# Altium schematic symbol library SparkFun-Connectors.SCHLIB: 365 symbols (part 7 of 8)
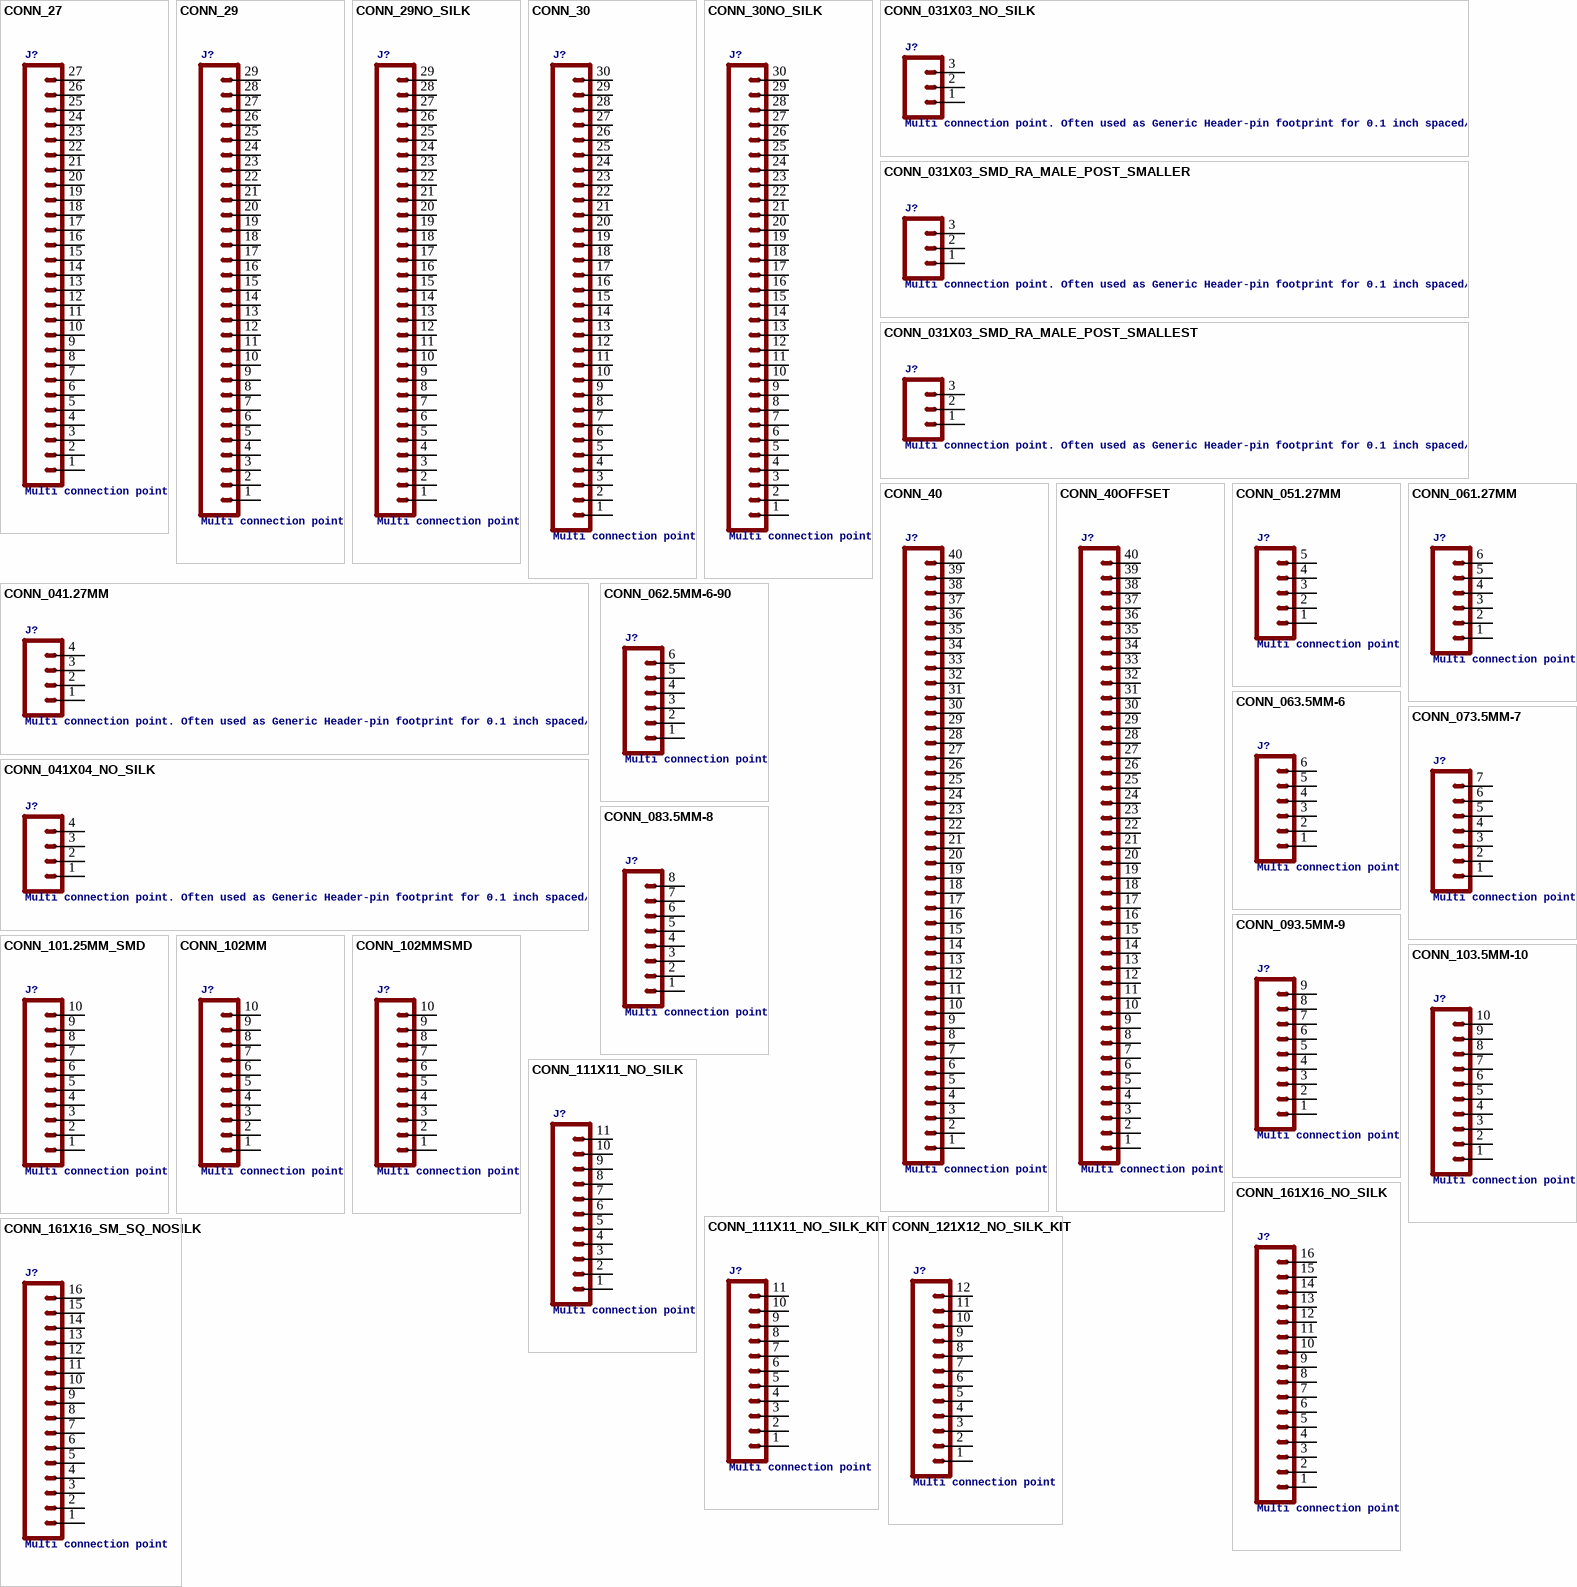
[diagram p22: symbols CONN_27 to CONN_161X16_SM_SQ_NOSILK]

## CONN_103.5MM-10
designator J?, comment Multi connection point. Often used as Generic Header-pin footprint for 0.1 inch spaced/style header connectionsOn any of the 0.1 inch spaced packages, you can populate with these: For SCREWTERMINALS and SPRING TERMINALS visit here:This device is also useful as a general connection point to wire up your design to another part of your project. Our various solder wires solder well into these plated through hole pads.Special notes:  Molex polarized connector foot print use with SKU : PRT-08231 with associated crimp pins and housings. 1MM SMD Version SKU: PRT-10208 NOTES ON THE VARIANTS LOCK and LOCK_LONGPADS... This footprint was designed to help hold the alignment of a through-hole component (i.e.  6-pin header) while soldering it into place. You may notice that each hole has been shifted either up or down by 0.005 of an inch from it's more standard position (which is a perfectly straight line).  This slight alteration caused the pins (the squares in the middle) to touch the edges of the holes.  Because they are alternating, it causes a "brace" to hold the component in place.  0.005 has proven to be the perfect amount of "off-center" position when using our standard breakaway headers. Although looks a little odd when you look at the bare footprint, once you have a header in there, the alteration is very hard to notice.  Also,if you push a header all the way into place, it is covered up entirely on the bottom side.
GateName_1: J1; SymbolName_1: CONN_10; DeviceName: 3.5MM-10; LibraryName: SparkFun-Connectors; DeviceSetName: CONN_10; Package: SCREWTERMINAL-3.5MM-10
footprint SCREWTERMINAL-3.5MM-10
pins: 1, 2, 3, 4, 5, 6, 7, 8, 9, 10

## CONN_111X11_NO_SILK
designator J?, comment Multi connection point. Often used as Generic Header-pin footprint for 0.1 inch spaced/style header connectionsOn any of the 0.1 inch spaced packages, you can populate with these: For SCREWTERMINALS and SPRING TERMINALS visit here:This device is also useful as a general connection point to wire up your design to another part of your project. Our various solder wires solder well into these plated through hole pads.
GateName_1: G$1; SymbolName_1: CONN_11; DeviceName: 1X11_NO_SILK; LibraryName: SparkFun-Connectors; DeviceSetName: CONN_11; Package: 1X11_NO_SILK
footprint 1X11_NO_SILK
pins: 1, 2, 3, 4, 5, 6, 7, 8, 9, 10, 11

## CONN_111X11_NO_SILK_KIT
designator J?, comment Multi connection point. Often used as Generic Header-pin footprint for 0.1 inch spaced/style header connectionsOn any of the 0.1 inch spaced packages, you can populate with these: For SCREWTERMINALS and SPRING TERMINALS visit here:This device is also useful as a general connection point to wire up your design to another part of your project. Our various solder wires solder well into these plated through hole pads.
GateName_1: G$1; SymbolName_1: CONN_11; DeviceName: 1X11_NO_SILK_KIT; LibraryName: SparkFun-Connectors; DeviceSetName: CONN_11; Package: 1X11_NO_SILK_KIT
footprint 1X11_NO_SILK_KIT
pins: 1, 2, 3, 4, 5, 6, 7, 8, 9, 10, 11

## CONN_121X12_NO_SILK_KIT
designator J?, comment Multi connection point. Often used as Generic Header-pin footprint for 0.1 inch spaced/style header connectionsOn any of the 0.1 inch spaced packages, you can populate with these: For SCREWTERMINALS and SPRING TERMINALS visit here:This device is also useful as a general connection point to wire up your design to another part of your project. Our various solder wires solder well into these plated through hole pads.Special notes:  Molex polarized connector foot print use with SKU : PRT-08231 with associated crimp pins and housings. 1MM SMD Version SKU: PRT-10208 NOTES ON THE VARIANTS LOCK and LOCK_LONGPADS... This footprint was designed to help hold the alignment of a through-hole component (i.e.  6-pin header) while soldering it into place. You may notice that each hole has been shifted either up or down by 0.005 of an inch from it's more standard position (which is a perfectly straight line).  This slight alteration caused the pins (the squares in the middle) to touch the edges of the holes.  Because they are alternating, it causes a "brace" to hold the component in place.  0.005 has proven to be the perfect amount of "off-center" position when using our standard breakaway headers. Although looks a little odd when you look at the bare footprint, once you have a header in there, the alteration is very hard to notice.  Also,if you push a header all the way into place, it is covered up entirely on the bottom side.
GateName_1: G$1; SymbolName_1: CONN_12; DeviceName: 1X12_NO_SILK_KIT; LibraryName: SparkFun-Connectors; DeviceSetName: CONN_12; Package: 1X12_NO_SILK_KIT
footprint 1X12_NO_SILK_KIT
pins: 1, 2, 3, 4, 5, 6, 7, 8, 9, 10, 11, 12

## CONN_161X16_NO_SILK
designator J?, comment Multi connection point. Often used as Generic Header-pin footprint for 0.1 inch spaced/style header connectionsOn any of the 0.1 inch spaced packages, you can populate with these: For SCREWTERMINALS and SPRING TERMINALS visit here:This device is also useful as a general connection point to wire up your design to another part of your project. Our various solder wires solder well into these plated through hole pads.Special notes:  Molex polarized connector foot print use with SKU : PRT-08231 with associated crimp pins and housings. 1MM SMD Version SKU: PRT-10208 NOTES ON THE VARIANTS LOCK and LOCK_LONGPADS... This footprint was designed to help hold the alignment of a through-hole component (i.e.  6-pin header) while soldering it into place. You may notice that each hole has been shifted either up or down by 0.005 of an inch from it's more standard position (which is a perfectly straight line).  This slight alteration caused the pins (the squares in the middle) to touch the edges of the holes.  Because they are alternating, it causes a "brace" to hold the component in place.  0.005 has proven to be the perfect amount of "off-center" position when using our standard breakaway headers. Although looks a little odd when you look at the bare footprint, once you have a header in there, the alteration is very hard to notice.  Also,if you push a header all the way into place, it is covered up entirely on the bottom side.
GateName_1: G$1; SymbolName_1: CONN_16; DeviceName: 1X16_NO_SILK; LibraryName: SparkFun-Connectors; DeviceSetName: CONN_16; Package: 1X16_NO_SILK
footprint 1X16_NO_SILK
pins: 1, 2, 3, 4, 5, 6, 7, 8, 9, 10, 11, 12, 13, 14, 15, 16

## CONN_161X16_SM_SQ_NOSILK
designator J?, comment Multi connection point. Often used as Generic Header-pin footprint for 0.1 inch spaced/style header connectionsOn any of the 0.1 inch spaced packages, you can populate with these: For SCREWTERMINALS and SPRING TERMINALS visit here:This device is also useful as a general connection point to wire up your design to another part of your project. Our various solder wires solder well into these plated through hole pads.Special notes:  Molex polarized connector foot print use with SKU : PRT-08231 with associated crimp pins and housings. 1MM SMD Version SKU: PRT-10208 NOTES ON THE VARIANTS LOCK and LOCK_LONGPADS... This footprint was designed to help hold the alignment of a through-hole component (i.e.  6-pin header) while soldering it into place. You may notice that each hole has been shifted either up or down by 0.005 of an inch from it's more standard position (which is a perfectly straight line).  This slight alteration caused the pins (the squares in the middle) to touch the edges of the holes.  Because they are alternating, it causes a "brace" to hold the component in place.  0.005 has proven to be the perfect amount of "off-center" position when using our standard breakaway headers. Although looks a little odd when you look at the bare footprint, once you have a header in there, the alteration is very hard to notice.  Also,if you push a header all the way into place, it is covered up entirely on the bottom side.
GateName_1: G$1; SymbolName_1: CONN_16; DeviceName: 1X16_SM_SQ_NOSILK; LibraryName: SparkFun-Connectors; DeviceSetName: CONN_16; Package: 1X16_SM_SQ_NOSILK
footprint 1X16_SM_SQ_NOSILK
pins: 1, 2, 3, 4, 5, 6, 7, 8, 9, 10, 11, 12, 13, 14, 15, 16

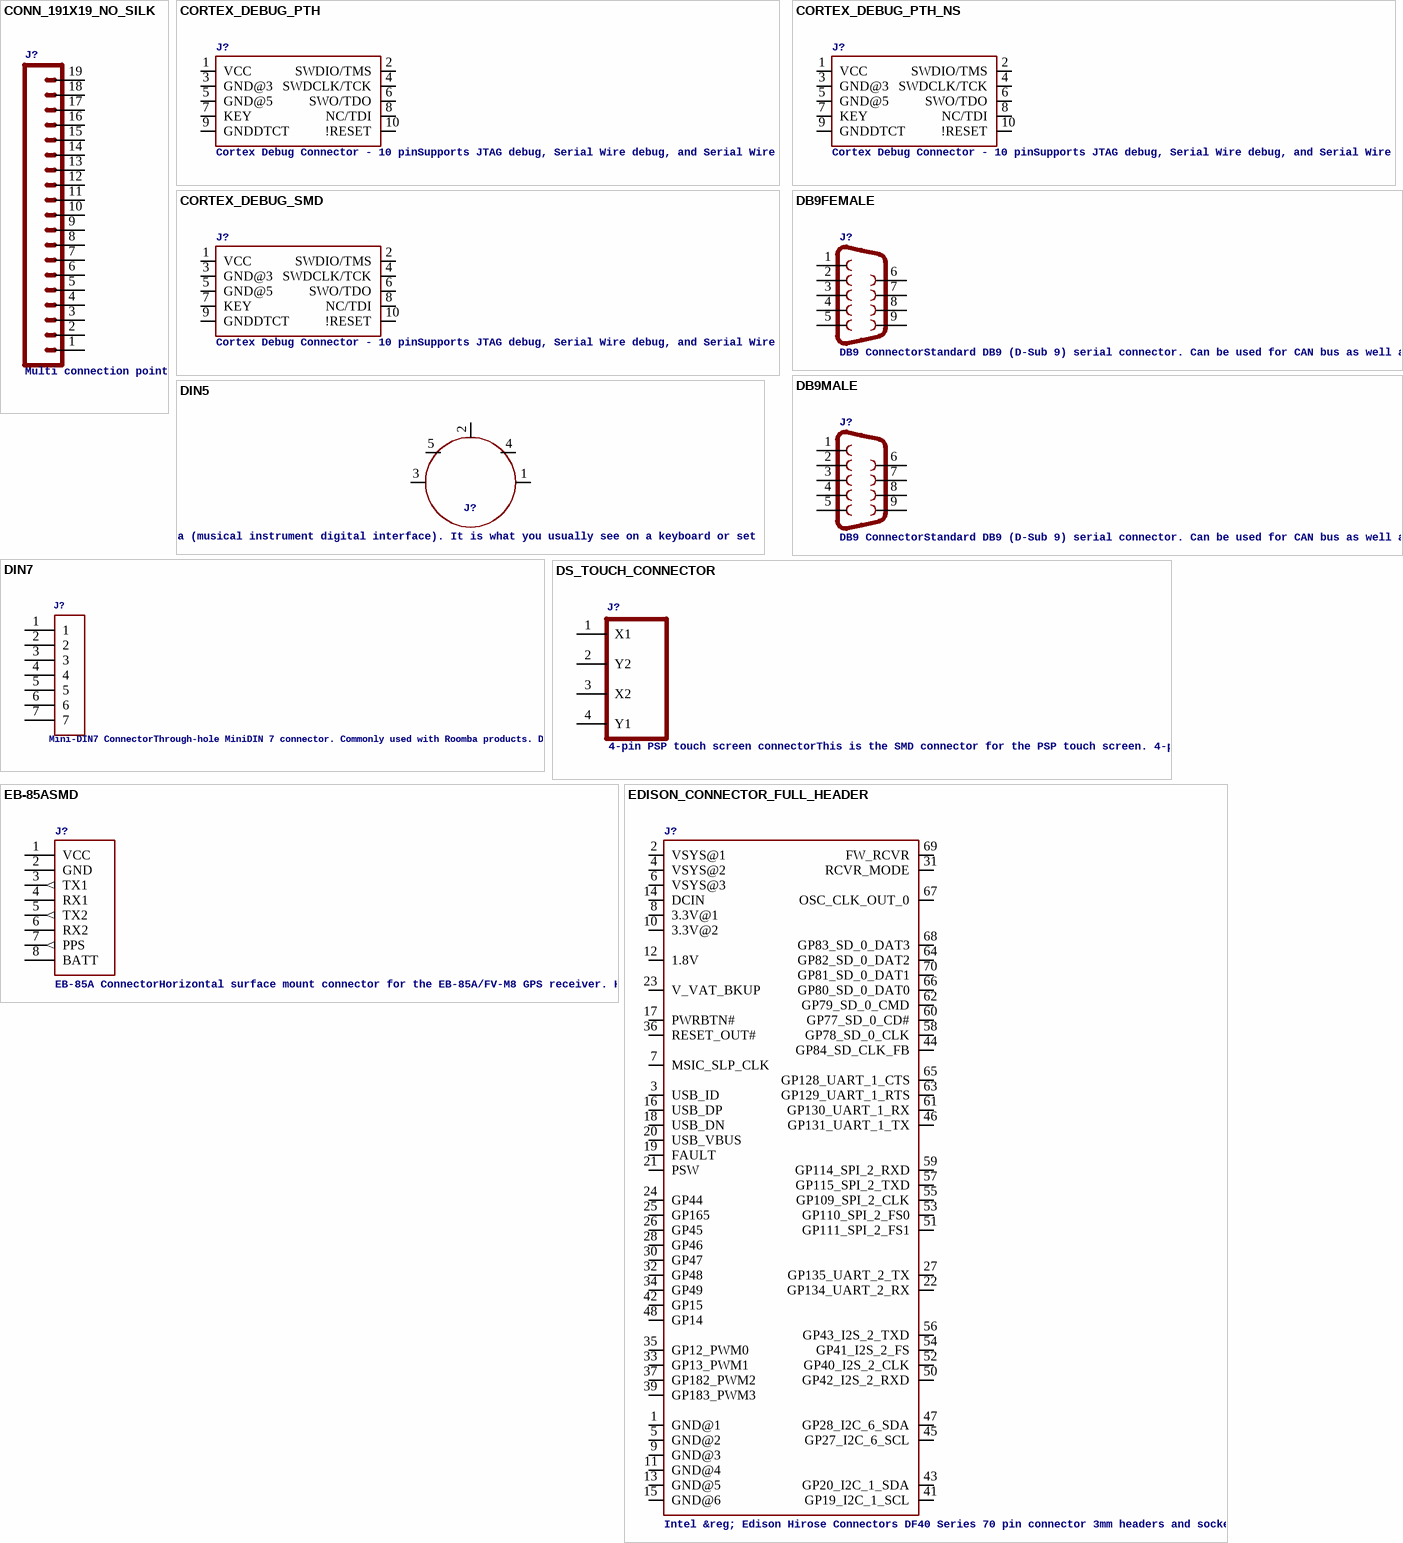
[diagram p12: symbols CONN_191X19_NO_SILK to EDISON_CONNECTOR_FULL_HEADER]

## CONN_191X19_NO_SILK
designator J?, comment Multi connection point. Often used as Generic Header-pin footprint for 0.1 inch spaced/style header connectionsOn any of the 0.1 inch spaced packages, you can populate with these: For SCREWTERMINALS and SPRING TERMINALS visit here:This device is also useful as a general connection point to wire up your design to another part of your project. Our various solder wires solder well into these plated through hole pads.Special notes:  Molex polarized connector foot print use with SKU : PRT-08231 with associated crimp pins and housings. 1MM SMD Version SKU: PRT-10208 NOTES ON THE VARIANTS LOCK and LOCK_LONGPADS... This footprint was designed to help hold the alignment of a through-hole component (i.e.  6-pin header) while soldering it into place. You may notice that each hole has been shifted either up or down by 0.005 of an inch from it's more standard position (which is a perfectly straight line).  This slight alteration caused the pins (the squares in the middle) to touch the edges of the holes.  Because they are alternating, it causes a "brace" to hold the component in place.  0.005 has proven to be the perfect amount of "off-center" position when using our standard breakaway headers. Although looks a little odd when you look at the bare footprint, once you have a header in there, the alteration is very hard to notice.  Also,if you push a header all the way into place, it is covered up entirely on the bottom side.
GateName_1: G$1; SymbolName_1: CONN_19; DeviceName: 1X19_NO_SILK; LibraryName: SparkFun-Connectors; DeviceSetName: CONN_19; Package: 1X19_NO_SILK
footprint 1X19_NO_SILK
pins: 1, 2, 3, 4, 5, 6, 7, 8, 9, 10, 11, 12, 13, 14, 15, 16, 17, 18, 19

## CORTEX_DEBUG_PTH
designator J?, comment Cortex Debug Connector - 10 pinSupports JTAG debug, Serial Wire debug, and Serial Wire Viewer. PTH and SMD connector options available. General Connector Information Products:
GateName_1: J1; SymbolName_1: CORTEX_DEBUG; DeviceName: _PTH; LibraryName: SparkFun-Connectors; DeviceSetName: CORTEX_DEBUG; Package: 2X5-PTH-1.27MM
footprint 2X5-PTH-1.27MM
pins: 1 VCC, 2 SWDIO/TMS, 3 GND@3, 4 SWDCLK/TCK, 5 GND@5, 6 SWO/TDO, 7 KEY, 8 NC/TDI, 9 GNDDTCT, 10 !RESET

## CORTEX_DEBUG_PTH_NS
designator J?, comment Cortex Debug Connector - 10 pinSupports JTAG debug, Serial Wire debug, and Serial Wire Viewer. PTH and SMD connector options available. General Connector Information Products:
GateName_1: J1; SymbolName_1: CORTEX_DEBUG; DeviceName: _PTH_NS; LibraryName: SparkFun-Connectors; DeviceSetName: CORTEX_DEBUG; Package: 2X5-PTH-1.27MM-NO_SILK
footprint 2X5-PTH-1.27MM-NO_SILK
pins: 1 VCC, 2 SWDIO/TMS, 3 GND@3, 4 SWDCLK/TCK, 5 GND@5, 6 SWO/TDO, 7 KEY, 8 NC/TDI, 9 GNDDTCT, 10 !RESET

## CORTEX_DEBUG_SMD
designator J?, comment Cortex Debug Connector - 10 pinSupports JTAG debug, Serial Wire debug, and Serial Wire Viewer. PTH and SMD connector options available. General Connector Information Products:
GateName_1: J1; SymbolName_1: CORTEX_DEBUG; DeviceName: _SMD; LibraryName: SparkFun-Connectors; DeviceSetName: CORTEX_DEBUG; Package: SAMTECH_FTSH-105-01
footprint SAMTECH_FTSH-105-01
pins: 1 VCC, 2 SWDIO/TMS, 3 GND@3, 4 SWDCLK/TCK, 5 GND@5, 6 SWO/TDO, 7 KEY, 8 NC/TDI, 9 GNDDTCT, 10 !RESET

## DB9FEMALE
designator J?, comment DB9 ConnectorStandard DB9 (D-Sub 9) serial connector. Can be used for CAN bus as well as RS485 and RS232. Footprint production proven. Here is the female version connector we sell at SparkFun:This connector has been used on the following SparkFun products:
GateName_1: G$1; SymbolName_1: F09G; PROD_ID: CONN-08194; DeviceName: FEMALE; LibraryName: SparkFun-Connectors; DeviceSetName: DB9; Package: DB9
footprint DB9
pins: 1, 2, 3, 4, 5, 6, 7, 8, 9

## DB9MALE
designator J?, comment DB9 ConnectorStandard DB9 (D-Sub 9) serial connector. Can be used for CAN bus as well as RS485 and RS232. Footprint production proven. Here is the female version connector we sell at SparkFun:This connector has been used on the following SparkFun products:
GateName_1: G$1; SymbolName_1: F09G; DeviceName: MALE; PROD_ID: CONN-09904; LibraryName: SparkFun-Connectors; DeviceSetName: DB9; Package: DB9_MALE
footprint DB9_MALE
pins: 1, 2, 3, 4, 5, 6, 7, 8, 9

## DIN5
designator J?, comment DIN5 Connector - Female Right Angle (frequently used as a MIDI Jack connector)This type of connector and cable is frequently used for transmitting midi data (musical instrument digital interface). It is what you usually see on a keyboard or set of electronic drums. Learn more here. For more information on the pinout and electrical specifications of MIDI communications, please see the following resource: https://www.midi.org/specifications/item/midi-din-electrical-specificationHere is the connector we sell at SparkFun:It is used on this SparkFun product:
GateName_1: G$1; SymbolName_1: 5-PIN-DIN; PROD_ID: CONN-09481; LibraryName: SparkFun-Connectors; DeviceSetName: DIN5; Package: DIN5-RA-PTH
footprint DIN5-RA-PTH
pins: 1, 2, 3, 4, 5

## DIN7
designator J?, comment Mini-DIN7 ConnectorThrough-hole MiniDIN 7 connector. Commonly used with Roomba products. Don't confuse this with DIN-6, which is commonly used on oldschool keyboards and mice. Here is the female version connector we sell at SparkFun:
GateName_1: G$1; SymbolName_1: DIN7; PROD_ID: CONN-08318; SF_ID: PRT-00696; LibraryName: SparkFun-Connectors; DeviceSetName: DIN7; Package: DIN7
footprint DIN7
pins: 1, 2, 3, 4, 5, 6, 7

## DS_TOUCH_CONNECTOR
designator J?, comment 4-pin PSP touch screen connectorThis is the SMD connector for the PSP touch screen. 4-pin right angle good, friction fit connector with 1 mm pitch. This connector is compatible with the PSP Touch Screen NOT the Sharp Color 24-Bit LCD. Here is the connector we sell at SparkFun:It was also used on this SparkFun product:
GateName_1: G$1; SymbolName_1: DS_TOUCH_CONNECTOR; SF_ID: LCD-09104; LibraryName: SparkFun-Connectors; DeviceSetName: DS_TOUCH_CONNECTOR; Package: DS_TOUCH_CONNECTOR; PROD_ID: CONN-0913
footprint DS_TOUCH_CONNECTOR
pins: 1 X1, 2 Y2, 3 X2, 4 Y1

## EB-85ASMD
designator J?, comment EB-85A ConnectorHorizontal surface mount connector for the EB-85A/FV-M8 GPS receiver. Here is the connector we sell at SparkFun:It was also used on this SparkFun product:
GateName_1: G$1; DeviceName: SMD; PROD_ID: CONN-08435; SF_ID: GPS-08297; SymbolName_1: EB-85A; LibraryName: SparkFun-Connectors; DeviceSetName: EB-85A; Package: EB-85A
footprint EB-85A
pins: 1 VCC (power), 2 GND (power), 3 TX1 (out), 4 RX1, 5 TX2 (out), 6 RX2, 7 PPS (out), 8 BATT (power)

## EDISON_CONNECTOR_FULL_HEADER
designator J?, comment Intel &reg; Edison Hirose Connectors DF40 Series 70 pin connector 3mm headers and sockets used on the SparkFun Edison Blocks. Edison Daughter package includes layout for the Edison module itself, including mounting holes and antenna area marked.SparkFun Products:
GateName_1: G$1; SymbolName_1: EDISON_CONNECTOR; DeviceName: _HEADER; DeviceSetName: EDISON_CONNECTOR_FULL; PROD_ID: CONN-12248; LibraryName: SparkFun-Connectors; Package: DF40C-70DP-0.4(51)
footprint DF40C-70DP-0.4(51)
pins: 1 GND@1, 2 VSYS@1, 3 USB_ID, 4 VSYS@2, 5 GND@2, 6 VSYS@3, 7 MSIC_SLP_CLK, 8 3.3V@1, 9 GND@3, 10 3.3V@2, 11 GND@4, 12 1.8V, 13 GND@5, 14 DCIN, 15 GND@6, 16 USB_DP, 17 PWRBTN#, 18 USB_DN, 19 FAULT, 20 USB_VBUS, 21 PSW, 22 GP134_UART_2_RX, 23 V_VAT_BKUP, 24 GP44, 25 GP165, 26 GP45, 27 GP135_UART_2_TX, 28 GP46, 30 GP47, 31 RCVR_MODE, 32 GP48, 33 GP13_PWM1, 34 GP49, 35 GP12_PWM0, 36 RESET_OUT#, 37 GP182_PWM2, 39 GP183_PWM3, 41 GP19_I2C_1_SCL, 42 GP15, 43 GP20_I2C_1_SDA, 44 GP84_SD_CLK_FB, 45 GP27_I2C_6_SCL, 46 GP131_UART_1_TX, 47 GP28_I2C_6_SDA, 48 GP14, 50 GP42_I2S_2_RXD, 51 GP111_SPI_2_FS1, 52 GP40_I2S_2_CLK, 53 GP110_SPI_2_FS0, 54 GP41_I2S_2_FS, 55 GP109_SPI_2_CLK, 56 GP43_I2S_2_TXD, 57 GP115_SPI_2_TXD, 58 GP78_SD_0_CLK, 59 GP114_SPI_2_RXD, 60 GP77_SD_0_CD#, 61 GP130_UART_1_RX, 62 GP79_SD_0_CMD, 63 GP129_UART_1_RTS, 64 GP82_SD_0_DAT2, 65 GP128_UART_1_CTS, 66 GP80_SD_0_DAT0, 67 OSC_CLK_OUT_0, 68 GP83_SD_0_DAT3, 69 FW_RCVR, 70 GP81_SD_0_DAT1

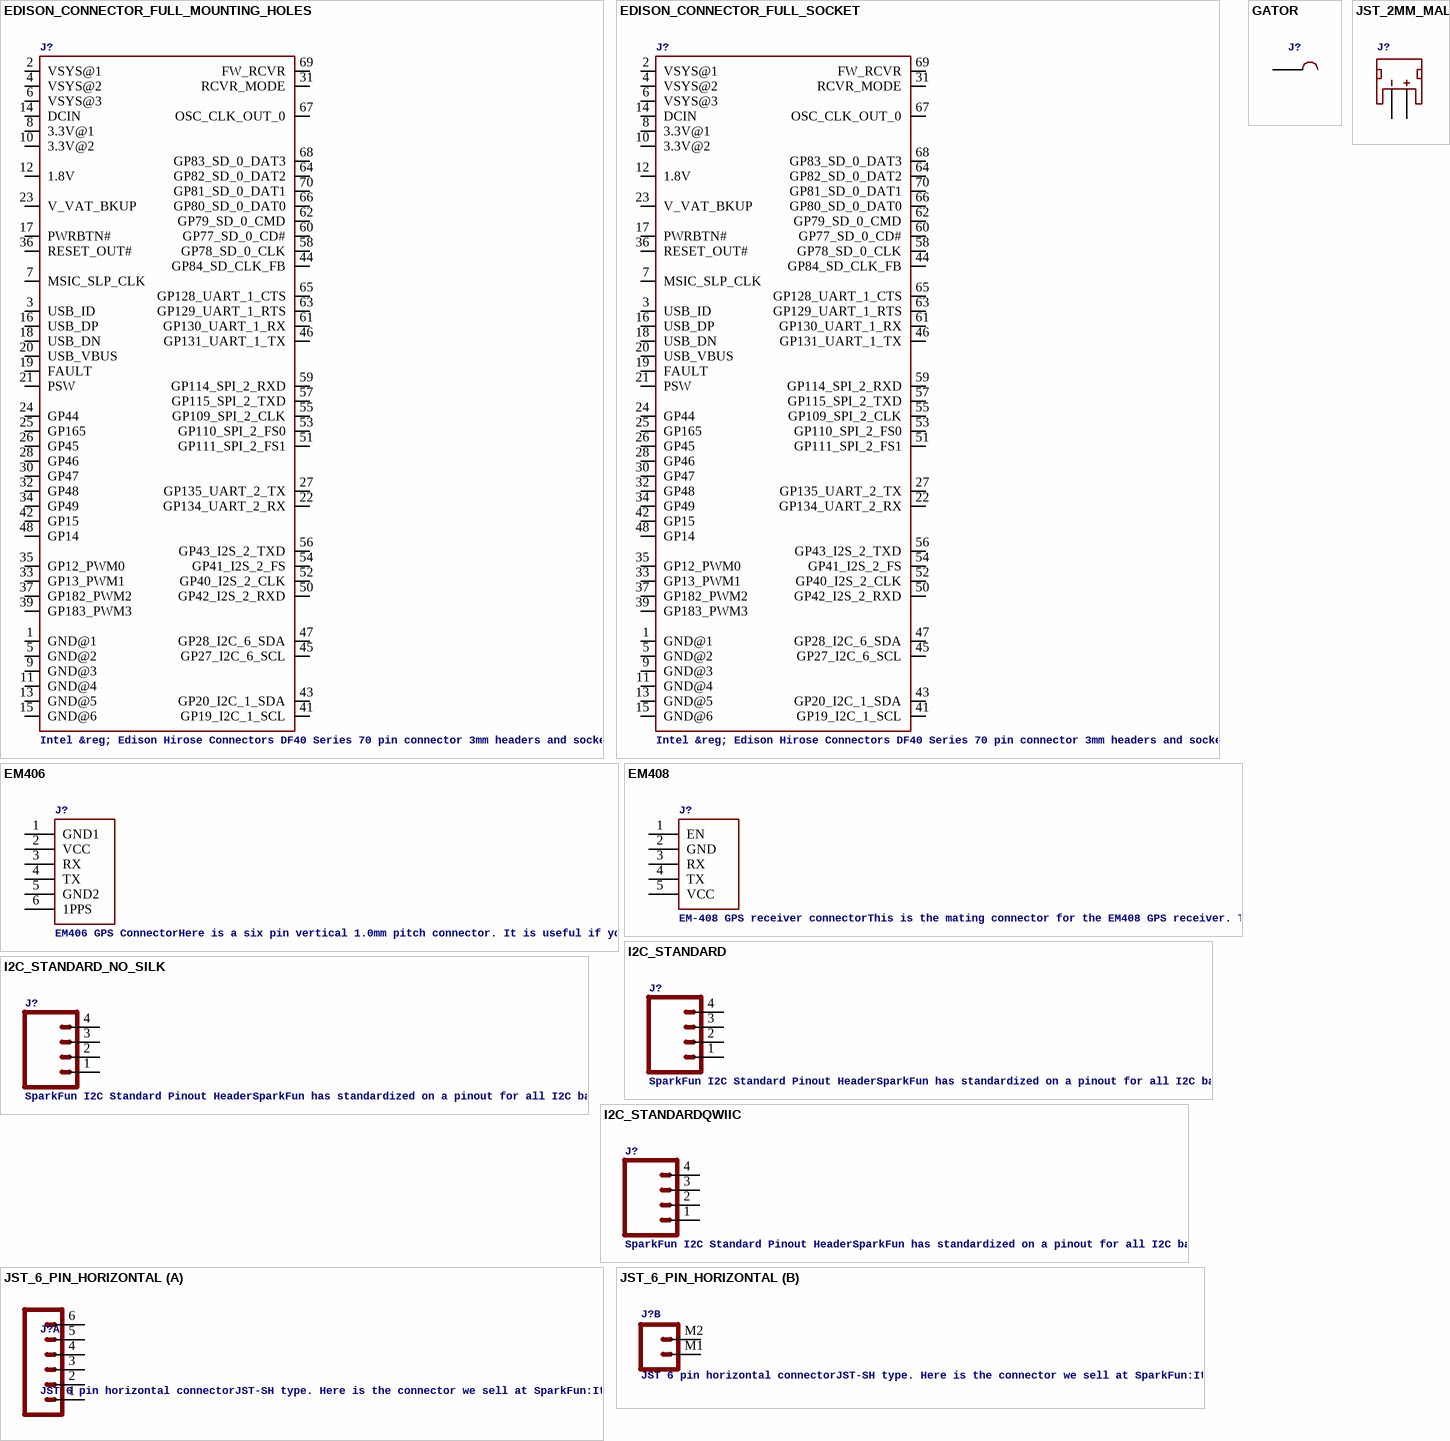
[diagram p13: symbols EDISON_CONNECTOR_FULL_MOUNTING_HOLES to JST_6_PIN_HORIZONTAL]

## EDISON_CONNECTOR_FULL_MOUNTING_HOLES
designator J?, comment Intel &reg; Edison Hirose Connectors DF40 Series 70 pin connector 3mm headers and sockets used on the SparkFun Edison Blocks. Edison Daughter package includes layout for the Edison module itself, including mounting holes and antenna area marked.SparkFun Products:
GateName_1: G$1; SymbolName_1: EDISON_CONNECTOR; DeviceName: _MOUNTING_HOLES; DeviceSetName: EDISON_CONNECTOR_FULL; LibraryName: SparkFun-Connectors; Package: EDISON_DAUGHTER
footprint EDISON_DAUGHTER
pins: 1 GND@1, 2 VSYS@1, 3 USB_ID, 4 VSYS@2, 5 GND@2, 6 VSYS@3, 7 MSIC_SLP_CLK, 8 3.3V@1, 9 GND@3, 10 3.3V@2, 11 GND@4, 12 1.8V, 13 GND@5, 14 DCIN, 15 GND@6, 16 USB_DP, 17 PWRBTN#, 18 USB_DN, 19 FAULT, 20 USB_VBUS, 21 PSW, 22 GP134_UART_2_RX, 23 V_VAT_BKUP, 24 GP44, 25 GP165, 26 GP45, 27 GP135_UART_2_TX, 28 GP46, 30 GP47, 31 RCVR_MODE, 32 GP48, 33 GP13_PWM1, 34 GP49, 35 GP12_PWM0, 36 RESET_OUT#, 37 GP182_PWM2, 39 GP183_PWM3, 41 GP19_I2C_1_SCL, 42 GP15, 43 GP20_I2C_1_SDA, 44 GP84_SD_CLK_FB, 45 GP27_I2C_6_SCL, 46 GP131_UART_1_TX, 47 GP28_I2C_6_SDA, 48 GP14, 50 GP42_I2S_2_RXD, 51 GP111_SPI_2_FS1, 52 GP40_I2S_2_CLK, 53 GP110_SPI_2_FS0, 54 GP41_I2S_2_FS, 55 GP109_SPI_2_CLK, 56 GP43_I2S_2_TXD, 57 GP115_SPI_2_TXD, 58 GP78_SD_0_CLK, 59 GP114_SPI_2_RXD, 60 GP77_SD_0_CD#, 61 GP130_UART_1_RX, 62 GP79_SD_0_CMD, 63 GP129_UART_1_RTS, 64 GP82_SD_0_DAT2, 65 GP128_UART_1_CTS, 66 GP80_SD_0_DAT0, 67 OSC_CLK_OUT_0, 68 GP83_SD_0_DAT3, 69 FW_RCVR, 70 GP81_SD_0_DAT1

## EDISON_CONNECTOR_FULL_SOCKET
designator J?, comment Intel &reg; Edison Hirose Connectors DF40 Series 70 pin connector 3mm headers and sockets used on the SparkFun Edison Blocks. Edison Daughter package includes layout for the Edison module itself, including mounting holes and antenna area marked.SparkFun Products:
GateName_1: G$1; SymbolName_1: EDISON_CONNECTOR; DeviceName: _SOCKET; DeviceSetName: EDISON_CONNECTOR_FULL; PROD_ID: CONN-12247; LibraryName: SparkFun-Connectors; Package: DF40-XC-(X.X)-70DS-0.4V(51)
footprint DF40-XC-(X.X)-70DS-0.4V(51)
pins: 1 GND@1, 2 VSYS@1, 3 USB_ID, 4 VSYS@2, 5 GND@2, 6 VSYS@3, 7 MSIC_SLP_CLK, 8 3.3V@1, 9 GND@3, 10 3.3V@2, 11 GND@4, 12 1.8V, 13 GND@5, 14 DCIN, 15 GND@6, 16 USB_DP, 17 PWRBTN#, 18 USB_DN, 19 FAULT, 20 USB_VBUS, 21 PSW, 22 GP134_UART_2_RX, 23 V_VAT_BKUP, 24 GP44, 25 GP165, 26 GP45, 27 GP135_UART_2_TX, 28 GP46, 30 GP47, 31 RCVR_MODE, 32 GP48, 33 GP13_PWM1, 34 GP49, 35 GP12_PWM0, 36 RESET_OUT#, 37 GP182_PWM2, 39 GP183_PWM3, 41 GP19_I2C_1_SCL, 42 GP15, 43 GP20_I2C_1_SDA, 44 GP84_SD_CLK_FB, 45 GP27_I2C_6_SCL, 46 GP131_UART_1_TX, 47 GP28_I2C_6_SDA, 48 GP14, 50 GP42_I2S_2_RXD, 51 GP111_SPI_2_FS1, 52 GP40_I2S_2_CLK, 53 GP110_SPI_2_FS0, 54 GP41_I2S_2_FS, 55 GP109_SPI_2_CLK, 56 GP43_I2S_2_TXD, 57 GP115_SPI_2_TXD, 58 GP78_SD_0_CLK, 59 GP114_SPI_2_RXD, 60 GP77_SD_0_CD#, 61 GP130_UART_1_RX, 62 GP79_SD_0_CMD, 63 GP129_UART_1_RTS, 64 GP82_SD_0_DAT2, 65 GP128_UART_1_CTS, 66 GP80_SD_0_DAT0, 67 OSC_CLK_OUT_0, 68 GP83_SD_0_DAT3, 69 FW_RCVR, 70 GP81_SD_0_DAT1

## EM406
designator J?, comment EM406 GPS ConnectorHere is a six pin vertical 1.0mm pitch connector. It is useful if you need something very tiny as a connection. These are not the standard JST type connectors we use on most of our boards, but are actually the much smaller JST-SH type. Here is the connector we sell at SparkFun:It was used on these SparkFun products:
GateName_1: G$1; PROD_ID: CONN-08249; SF_ID: GPS-00579; SymbolName_1: EM406; LibraryName: SparkFun-Connectors; DeviceSetName: EM406; Package: 1X06-1MM
footprint 1X06-1MM
pins: 1 GND1, 2 VCC, 3 RX, 4 TX, 5 GND2, 6 1PPS

## EM408
designator J?, comment EM-408 GPS receiver connectorThis is the mating connector for the EM408 GPS receiver. The EM408 connects to the board via a cable. Note, this connector footprint does not include the outline of the receiver. Here is the connector we sell at SparkFun:It was also used on this SparkFun product:Special note: You should include the "EM408_Outline" device in your schematic if you are to use the EM408 in your design.
GateName_1: G$1; PROD_ID: CONN-08528; SF_ID: GPS-08288; SymbolName_1: EM408; LibraryName: SparkFun-Connectors; DeviceSetName: EM408; Package: 1X05_1MM
footprint 1X05_1MM
pins: 1 EN, 2 GND (power), 3 RX, 4 TX, 5 VCC (power)

## GATOR
designator J?
GateName_1: G$1; SymbolName_1: MICRO_BIT_GATOR_CLIP; DeviceSetName: GATOR; LibraryName: SparkFun-Connectors; Package: GATOR
footprint GATOR
pins: P$1 P$2 P$1

## I2C_STANDARD
designator J?, comment SparkFun I2C Standard Pinout HeaderSparkFun has standardized on a pinout for all I2C based sensor breakouts.This pinout allows I2C boards to be plugged directly into the headers on Arduino Uno compatible boards, and to be daisy chained easily.Example SparkFun Products:
GateName_1: G$1; SymbolName_1: I2C_STANDARD; LibraryName: SparkFun-Connectors; DeviceSetName: I2C_STANDARD; Package: 1X04
footprint 1X04
pins: 1 (power), 2 (power), 3, 4

## I2C_STANDARD_NO_SILK
designator J?, comment SparkFun I2C Standard Pinout HeaderSparkFun has standardized on a pinout for all I2C based sensor breakouts.This pinout allows I2C boards to be plugged directly into the headers on Arduino Uno compatible boards, and to be daisy chained easily.Example SparkFun Products:
GateName_1: G$1; SymbolName_1: I2C_STANDARD; DeviceName: _NO_SILK; LibraryName: SparkFun-Connectors; DeviceSetName: I2C_STANDARD; Package: 1X04_NO_SILK
footprint 1X04_NO_SILK
pins: 1 (power), 2 (power), 3, 4

## I2C_STANDARDQWIIC
designator J?, comment SparkFun I2C Standard Pinout HeaderSparkFun has standardized on a pinout for all I2C based sensor breakouts.This pinout allows I2C boards to be plugged directly into the headers on Arduino Uno compatible boards, and to be daisy chained easily.Example SparkFun Products:
GateName_1: G$1; SymbolName_1: I2C_STANDARD; DeviceName: QWIIC; PROD_ID: CONN-13694; LibraryName: SparkFun-Connectors; DeviceSetName: I2C_STANDARD; Package: 1X04_1MM_RA
footprint 1X04_1MM_RA
pins: 1 (power), 2 (power), 3, 4

## JST_2MM_MALE
designator J?, comment JST 2MM MALE RA CONNECTORTwo pin, compact surface mount connector. Commonly used as a battery input connection point. We really like the solid locking feeling and high current rating on these small connectors. We use these all the time as battery connectors. Mates to single-cell LiPo batteries. Here is the connector we sell at SparkFun:It was used on these SparkFun products:  (value not drawn)
GateName_1: G$1; SymbolName_1: JST_2MM_MALE; PROD_ID: CONN-11443; SF_ID: PRT-08612; LibraryName: SparkFun-Connectors; DeviceSetName: JST_2MM_MALE; Package: JST-2-SMD
footprint JST-2-SMD
pins: 1 -, 2 +, NC1 PAD1, NC2 PAD2

## JST_6_PIN_HORIZONTAL
designator J?, comment JST 6 pin horizontal connectorJST-SH type. Here is the connector we sell at SparkFun:It was used on these SparkFun products:
GateName_1: A; SymbolName_1: CONN_06; GateName_2: B; SymbolName_2: CONN_02; DeviceSetName: JST_6_PIN_HORIZONTAL; PROD_ID: XXX-00000; LibraryName: SparkFun-Connectors; Package: JST-6-SMD-HORI-1.0MM
footprint JST-6-SMD-HORI-1.0MM
part A pins: 1, 2, 3, 4, 5, 6
part B pins: M1 1, M2 2

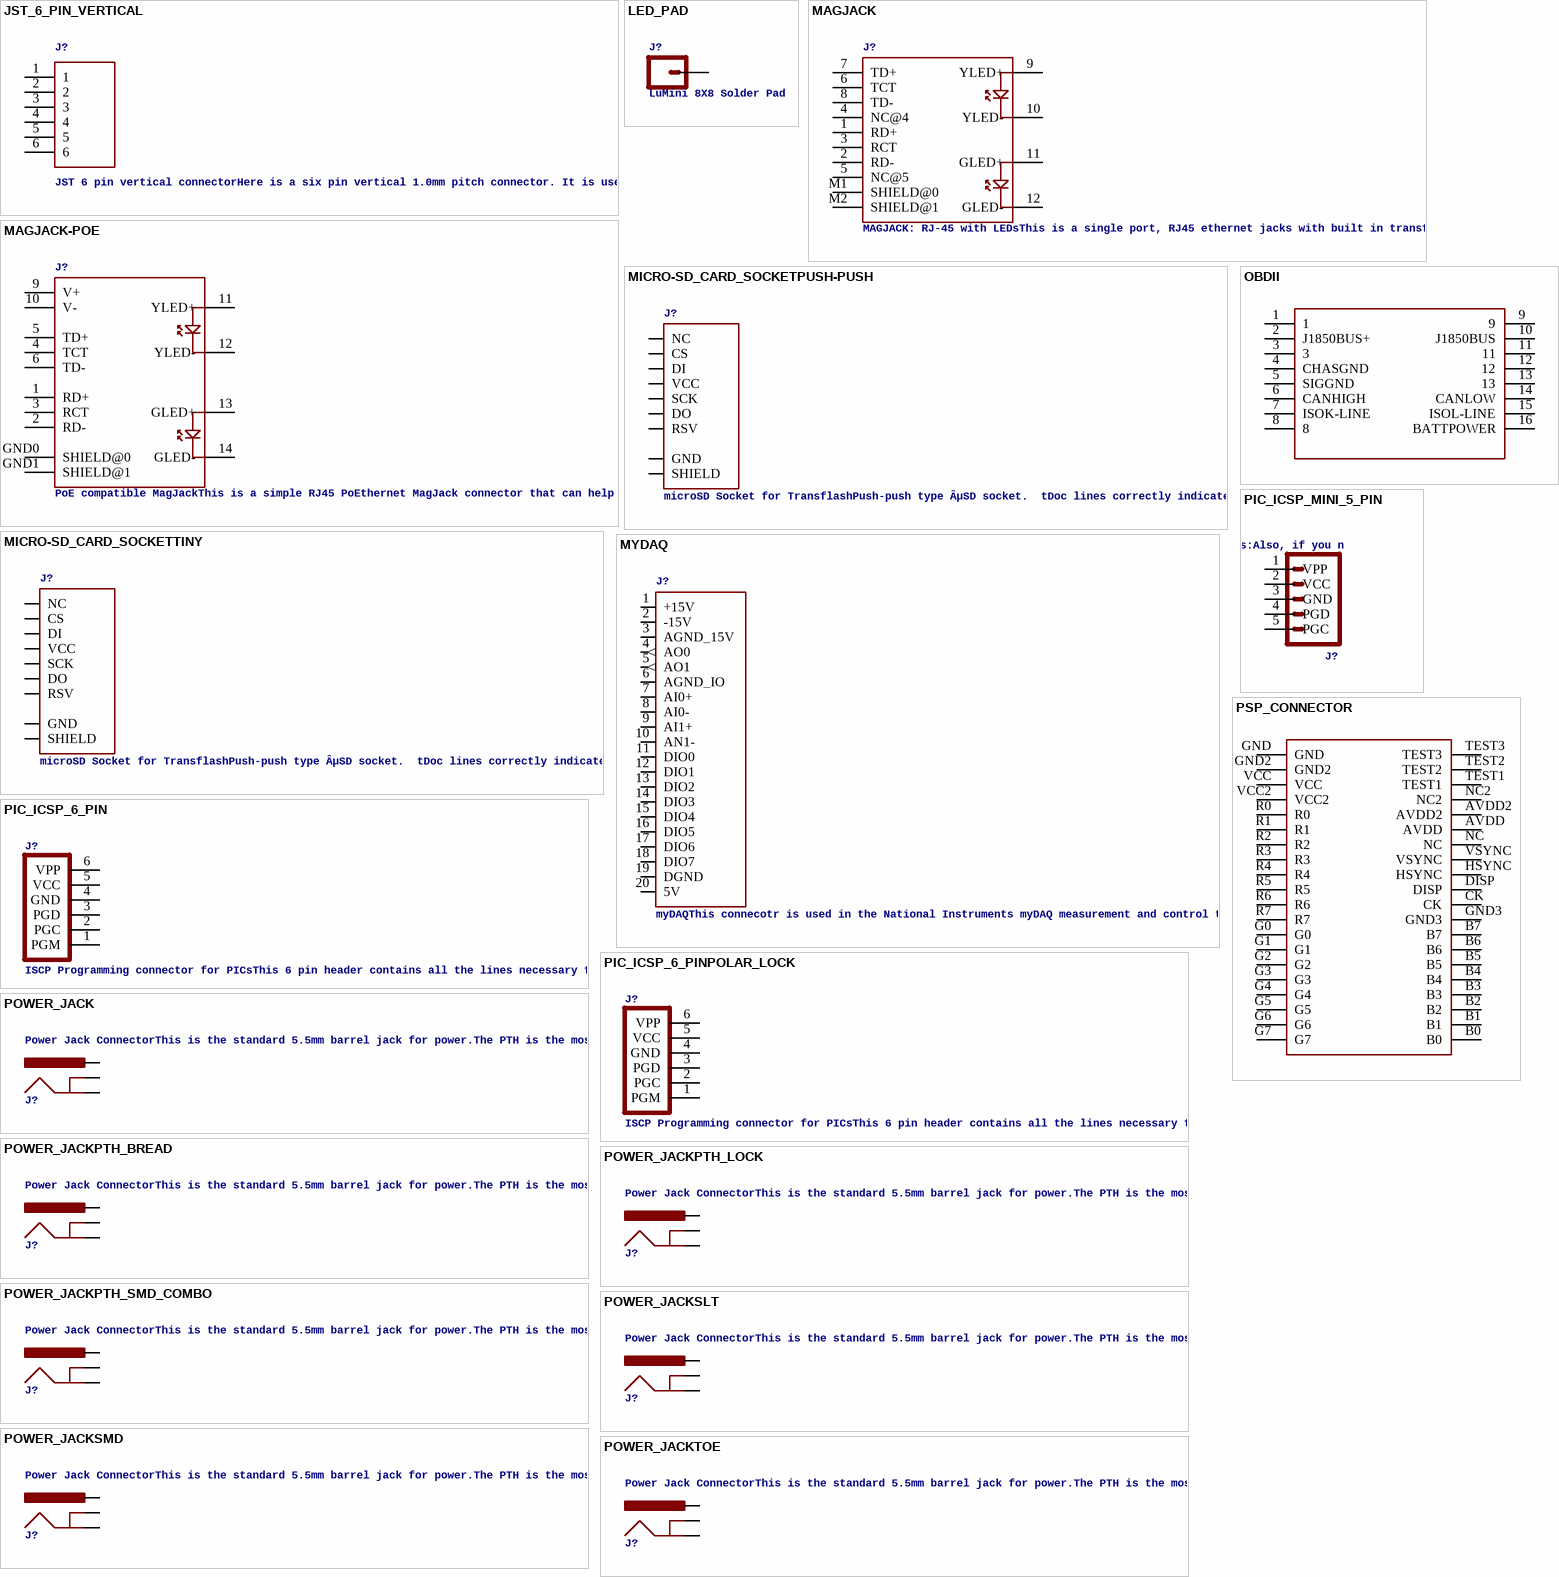
[diagram p14: symbols JST_6_PIN_VERTICAL to PSP_CONNECTOR]

## JST_6_PIN_VERTICAL
designator J?, comment JST 6 pin vertical connectorHere is a six pin vertical 1.0mm pitch connector. It is useful if you need something very tiny as a connection. These are not the standard JST type connectors we use on most of our boards, but are actually the much smaller JST-SH type. Here is the connector we sell at SparkFun:It was used on these SparkFun products:
GateName_1: G$1; SymbolName_1: JST_6_1MM_VERT; DeviceSetName: JST_6_PIN_VERTICAL; PROD_ID: CONN-08249; SF_ID: GPS-00579; LibraryName: SparkFun-Connectors; Package: JST-6-SMD-VERT-1.0MM
footprint JST-6-SMD-VERT-1.0MM
pins: 1, 2, 3, 4, 5, 6

## LED_PAD
designator J?, comment LuMini 8X8 Solder Pad
GateName_1: G$1; SymbolName_1: CONN_01; DeviceSetName: LED_PAD; LibraryName: SparkFun-Connectors; Package: CIRCULARPAD
footprint CIRCULARPAD
pins: P$1 P$2 1

## MAGJACK
designator J?, comment MAGJACK: RJ-45 with LEDsThis is a single port, RJ45 ethernet jacks with built in transformer (magnetics), status LEDs, and shielding. Here is the connector we sell at SparkFun:It is used on this SparkFun product:
GateName_1: G$1; PROD_ID: CONN-09556; SF_ID: PRT-08534; SymbolName_1: MAGJACK; LibraryName: SparkFun-Connectors; DeviceSetName: MAGJACK; Package: MAGJACK
footprint MAGJACK
pins: 1 RD+, 2 RD-, 3 RCT, 4 NC@4, 5 NC@5, 6 TCT, 7 TD+, 8 TD-, 9 YLED+, 10 YLED-, 11 GLED+, 12 GLED-, M1 SHIELD@0, M2 SHIELD@1

## MAGJACK-POE
designator J?, comment PoE compatible MagJackThis is a simple RJ45 PoEthernet MagJack connector that can help connect you to the Internet with the ability to provide power. Here is the connector we sell at SparkFun:Note:
GateName_1: G$1; SymbolName_1: MAGJACK-POE; PROD_ID: CONN-10659; SF_ID: PRT-13606; LibraryName: SparkFun-Connectors; DeviceSetName: MAGJACK-POE; Package: MAGJACK-POE
footprint MAGJACK-POE
pins: 1 RD+, 2 RD-, 3 RCT, 4 TCT, 5 TD+, 6 TD-, 9 V+, 10 V-, 11 YLED+, 12 YLED-, 13 GLED+, 14 GLED-, GND0 SHIELD@0, GND1 SHIELD@1

## MICRO-SD_CARD_SOCKETPUSH-PUSH
designator J?, comment microSD Socket for TransflashPush-push type ÂµSD socket.  tDoc lines correctly indicate media card edge positions when inserting (unlocked, locked, depressed). NOTE: CD1 and CD2 are connected internally, and the default detect state of the socket is detect pin to ground.SparkFun Products:
GateName_1: J1; DeviceSetName: MICRO-SD_CARD_SOCKET; PROD_ID: CONN-07820; SymbolName_1: MICROSD; DeviceName: PUSH-PUSH; LibraryName: SparkFun-Connectors; Package: MICRO-SD-SOCKET
footprint MICRO-SD-SOCKET
pins: CD1 SHIELD, CS, DI, DO, GND, RSV1 RSV, RSV2 NC, SCLK SCK, VCC

## MICRO-SD_CARD_SOCKETTINY
designator J?, comment microSD Socket for TransflashPush-push type ÂµSD socket.  tDoc lines correctly indicate media card edge positions when inserting (unlocked, locked, depressed). NOTE: CD1 and CD2 are connected internally, and the default detect state of the socket is detect pin to ground.SparkFun Products:
GateName_1: J1; DeviceName: TINY; DeviceSetName: MICRO-SD_CARD_SOCKET; PROD_ID: CONN-13500; SymbolName_1: MICROSD; LibraryName: SparkFun-Connectors; Package: MICROSD_TINY
footprint MICROSD_TINY
pins: 1 8 RSV, 2 CS, 3 DI, 4 VCC, 5 SCK, 6 GND, 7 DO, 9 NC, GND1 GND2 GND3 GND4 GND5 GND6 SHIELD

## MYDAQ
designator J?, comment myDAQThis connecotr is used in the National Instruments myDAQ measurement and control tool ecosystem. Learn more at the myDAQ website. The connector is a 20pin 3.81mm spaced Female Right Angle Terminal Block (PTH). Sorry, we do not sell the connector as an individual part at SparkFun, howere here is a link to the datasheet:It is used on this SparkFun product:
GateName_1: G$1; SymbolName_1: MYDAQ_CONNECTOR; PROD_ID: CONN-10450; LibraryName: SparkFun-Connectors; DeviceSetName: MYDAQ; Package: 3.81MM_TERMINAL_BLOCK_FEMALE_LOCKING
footprint 3.81MM_TERMINAL_BLOCK_FEMALE_LOCKING
pins: 1 +15V (power), 2 -15V (power), 3 AGND_15V (power), 4 AO0 (out), 5 AO1 (out), 6 AGND_IO (power), 7 AI0+, 8 AI0-, 9 AI1+, 10 AN1-, 11 DIO0, 12 DIO1, 13 DIO2, 14 DIO3, 15 DIO4, 16 DIO5, 17 DIO6, 18 DIO7, 19 DGND (power), 20 5V (power)

## OBDII
designator J?, comment OBD-II ConnectorOBDII is an on board diagnostics standard that is used on a large variety of cars. Here is the connector we sell at SparkFun:We do not use this connector on any active designs, however, if you're looking for OBDII tech, please check out these:  (value not drawn)
GateName_1: G$1; SF_ID: DEV-09911; SymbolName_1: OBDII; LibraryName: SparkFun-Connectors; DeviceSetName: OBDII; Package: OBDII
footprint OBDII
pins: 1, 2 J1850BUS+, 3, 4 CHASGND, 5 SIGGND, 6 CANHIGH, 7 ISOK-LINE, 8, 9, 10 J1850BUS, 11, 12, 13, 14 CANLOW, 15 ISOL-LINE, 16 BATTPOWER

## PIC_ICSP_6_PIN
designator J?, comment ISCP Programming connector for PICsThis 6 pin header contains all the lines necessary for programming most PIC microcontrollers. Here is the connector we sell at SparkFun:It is used on this SparkFun product:Also, if you need a nice PIC programmer, please check these out:
GateName_1: G$1; SymbolName_1: ICSP-PIC; DeviceSetName: PIC_ICSP_6_PIN; PROD_ID: CONN-08046; SF_ID: PRT-08094; LibraryName: SparkFun-Connectors; Package: MOLEX-1X6
footprint MOLEX-1X6
pins: 1 PGM, 2 PGC, 3 PGD, 4 GND (power), 5 VCC (power), 6 VPP

## PIC_ICSP_6_PINPOLAR_LOCK
designator J?, comment ISCP Programming connector for PICsThis 6 pin header contains all the lines necessary for programming most PIC microcontrollers. Here is the connector we sell at SparkFun:It is used on this SparkFun product:Also, if you need a nice PIC programmer, please check these out:
GateName_1: G$1; SymbolName_1: ICSP-PIC; DeviceName: POLAR_LOCK; DeviceSetName: PIC_ICSP_6_PIN; LibraryName: SparkFun-Connectors; Package: MOLEX-1X6_LOCK
footprint MOLEX-1X6_LOCK
pins: 1 PGM, 2 PGC, 3 PGD, 4 GND (power), 5 VCC (power), 6 VPP

## PIC_ICSP_MINI_5_PIN
designator J?, comment PIC-ICSP-MiniMiniature 5-pin connection for temporary programming of PICs. Use this device in your design to save space. Miniature ISCP Programming connector for PICsThis 5 pin header contains all the lines necessary for programming most PIC microcontrollers. Use this device in your design to save space. Here is the connector we sell at SparkFun:It is used on these SparkFun products:Also, if you need a nice PIC programmer, please check these out:
GateName_1: G$1; SymbolName_1: PIC-ISCP-MINI; DeviceSetName: PIC_ICSP_MINI_5_PIN; PROD_ID: CONN-08314; SF_ID: PRT-11264; LibraryName: SparkFun-Connectors; Package: PIC_ICSP_MINI_5_PIN
footprint PIC_ICSP_MINI_5_PIN
pins: 1 VPP, 2 VCC, 3 GND, 4 PGD, 5 PGC

## POWER_JACK
designator J?, comment Power Jack ConnectorThis is the standard 5.5mm barrel jack for power.The PTH is the most common, proven, reliable, footprint.The Slot footprint only works if the mill layer is transmitted to the PCB fab house so be warned.Here are the connectors we sell at SparkFun:It is used on this SparkFun product (and many, many others):Also, if you need a mating power supply or connector, please check these out:
GateName_1: G$1; DeviceSetName: POWER_JACK; PROD_ID: CONN-08197; SymbolName_1: POWERJACK; LibraryName: SparkFun-Connectors; Package: POWER_JACK_PTH
footprint POWER_JACK_PTH
pins: GND, GNDBREAK, PWR

## POWER_JACKPTH_BREAD
designator J?, comment Power Jack ConnectorThis is the standard 5.5mm barrel jack for power.The PTH is the most common, proven, reliable, footprint.The Slot footprint only works if the mill layer is transmitted to the PCB fab house so be warned.Here are the connectors we sell at SparkFun:It is used on this SparkFun product (and many, many others):Also, if you need a mating power supply or connector, please check these out:
GateName_1: G$1; DeviceName: PTH_BREAD; DeviceSetName: POWER_JACK; PROD_ID: PRT-10811; SymbolName_1: POWERJACK; LibraryName: SparkFun-Connectors; Package: POWER_JACK_PTH_BREAD
footprint POWER_JACK_PTH_BREAD
pins: GND, GNDBREAK, PWR

## POWER_JACKPTH_LOCK
designator J?, comment Power Jack ConnectorThis is the standard 5.5mm barrel jack for power.The PTH is the most common, proven, reliable, footprint.The Slot footprint only works if the mill layer is transmitted to the PCB fab house so be warned.Here are the connectors we sell at SparkFun:It is used on this SparkFun product (and many, many others):Also, if you need a mating power supply or connector, please check these out:
GateName_1: G$1; DeviceName: PTH_LOCK; DeviceSetName: POWER_JACK; PROD_ID: CONN-08197; SF_ID: PRT-00119; SymbolName_1: POWERJACK; LibraryName: SparkFun-Connectors; Package: POWER_JACK_PTH_LOCK
footprint POWER_JACK_PTH_LOCK
pins: GND, GNDBREAK, PWR

## POWER_JACKPTH_SMD_COMBO
designator J?, comment Power Jack ConnectorThis is the standard 5.5mm barrel jack for power.The PTH is the most common, proven, reliable, footprint.The Slot footprint only works if the mill layer is transmitted to the PCB fab house so be warned.Here are the connectors we sell at SparkFun:It is used on this SparkFun product (and many, many others):Also, if you need a mating power supply or connector, please check these out:
GateName_1: G$1; DeviceName: PTH_SMD_COMBO; DeviceSetName: POWER_JACK; SymbolName_1: POWERJACK; LibraryName: SparkFun-Connectors; Package: POWER_JACK_COMBO
footprint POWER_JACK_COMBO
pins: GND GNDBREAK, GND@1 GND, POWER PWR

## POWER_JACKSLT
designator J?, comment Power Jack ConnectorThis is the standard 5.5mm barrel jack for power.The PTH is the most common, proven, reliable, footprint.The Slot footprint only works if the mill layer is transmitted to the PCB fab house so be warned.Here are the connectors we sell at SparkFun:It is used on this SparkFun product (and many, many others):Also, if you need a mating power supply or connector, please check these out:
GateName_1: G$1; DeviceName: SLT; DeviceSetName: POWER_JACK; PROD_ID: PRT-00119; SymbolName_1: POWERJACK; LibraryName: SparkFun-Connectors; Package: POWER_JACK_SLOT
footprint POWER_JACK_SLOT
pins: GND@1 GNDBREAK, GND@2 GND, PWR

## POWER_JACKSMD
designator J?, comment Power Jack ConnectorThis is the standard 5.5mm barrel jack for power.The PTH is the most common, proven, reliable, footprint.The Slot footprint only works if the mill layer is transmitted to the PCB fab house so be warned.Here are the connectors we sell at SparkFun:It is used on this SparkFun product (and many, many others):Also, if you need a mating power supply or connector, please check these out:
GateName_1: G$1; DeviceName: SMD; DeviceSetName: POWER_JACK; PROD_ID: CONN-08106; SF_ID: PRT-12748; SymbolName_1: POWERJACK; LibraryName: SparkFun-Connectors; Package: POWER_JACK_SMD
footprint POWER_JACK_SMD
pins: GND GNDBREAK, P$4 GND, VIN0 PWR

## POWER_JACKTOE
designator J?, comment Power Jack ConnectorThis is the standard 5.5mm barrel jack for power.The PTH is the most common, proven, reliable, footprint.The Slot footprint only works if the mill layer is transmitted to the PCB fab house so be warned.Here are the connectors we sell at SparkFun:It is used on this SparkFun product (and many, many others):Also, if you need a mating power supply or connector, please check these out:
GateName_1: G$1; DeviceName: TOE; DeviceSetName: POWER_JACK; PROD_ID: CONN-08106; SF_ID: PRT-12748; SymbolName_1: POWERJACK; LibraryName: SparkFun-Connectors; Package: POWER_JACK_SMD_OVERPASTE_TOE
footprint POWER_JACK_SMD_OVERPASTE_TOE
pins: GND GNDBREAK, P$4 GND, VIN0 PWR

## PSP_CONNECTOR
designator J?, comment Connector for the PlayStation Portable (PSP) screen ribbon cableWe no longer sell the screens, however we do still sell the connector. Here is the connector we sell at SparkFun:  (value not drawn)
GateName_1: G$1; SymbolName_1: PSP_CONNECTOR; SF_ID: LCD-08355; LibraryName: SparkFun-Connectors; DeviceSetName: PSP_CONNECTOR; Package: PSP_CONNECTOR
footprint PSP_CONNECTOR
pins: AVDD, AVDD2, B0, B1, B2, B3, B4, B5, B6, B7, CK, DISP, G0, G1, G2, G3, G4, G5, G6, G7, GND, GND2, GND3, HSYNC, NC, NC2, R0, R1, R2, R3, R4, R5, R6, R7, TEST1, TEST2, TEST3, VCC, VCC2, VSYNC

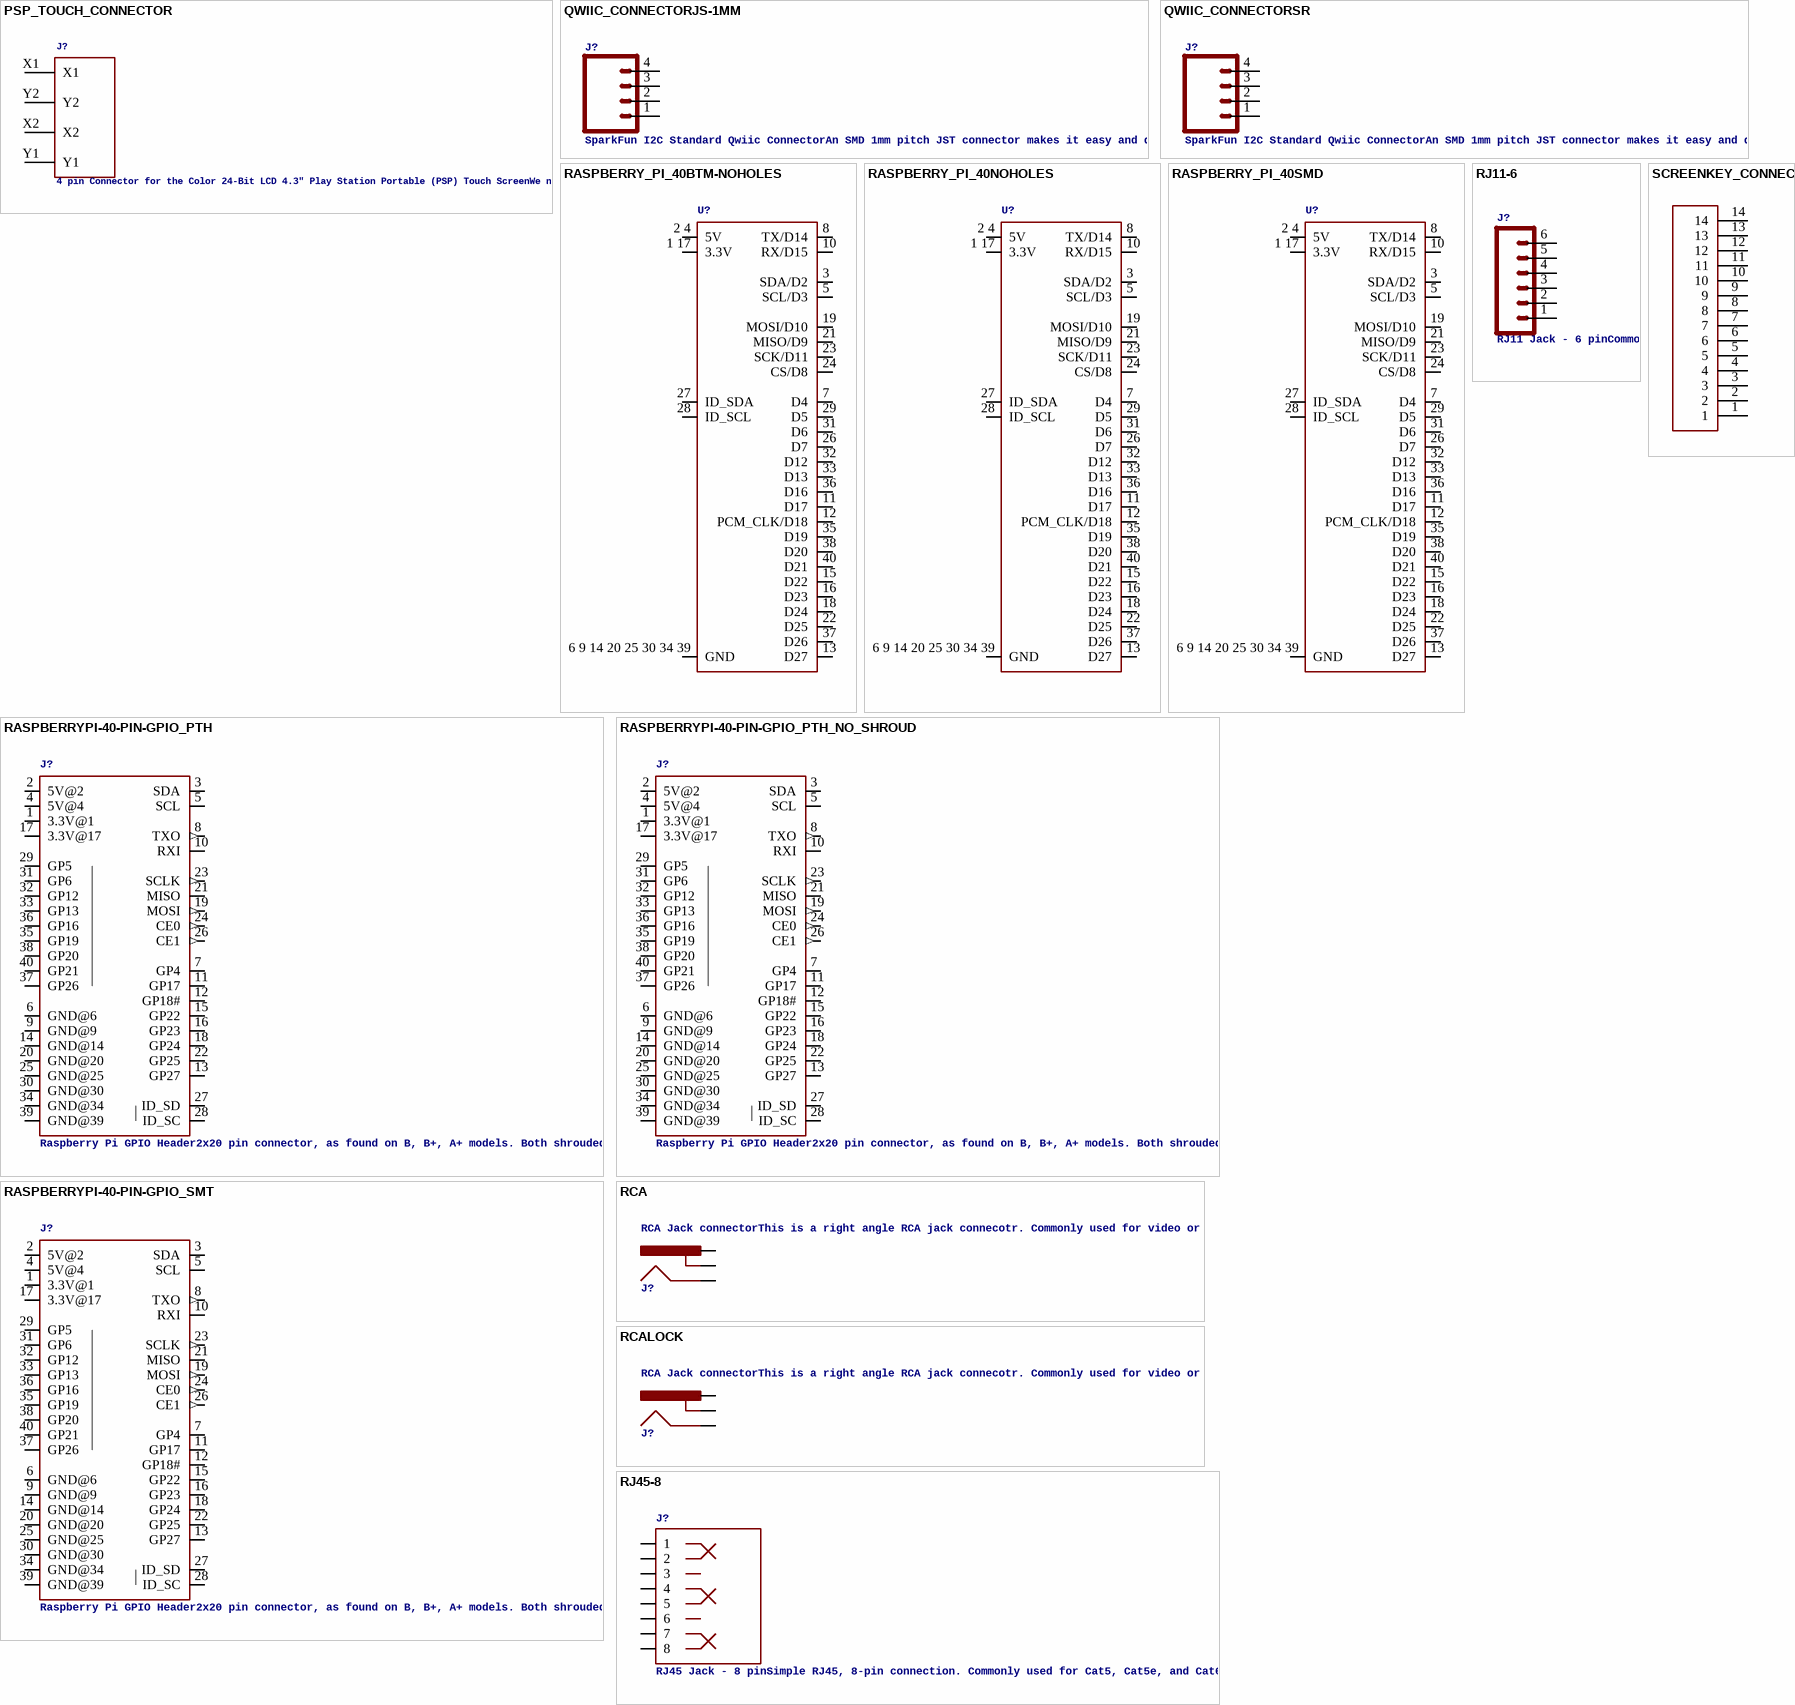
[diagram p15: symbols PSP_TOUCH_CONNECTOR to SCREENKEY_CONNECTOR]

## PSP_TOUCH_CONNECTOR
designator J?, comment 4 pin Connector for the Color 24-Bit LCD 4.3" Play Station Portable (PSP) Touch ScreenWe no longer sell the screens, however we do still sell the connector. Here is the connector we sell at SparkFun:
GateName_1: G$1; SymbolName_1: PSP_TOUCH_CONNECTOR; PROD_ID: CONN-09139; SF_ID: LCD-09104; LibraryName: SparkFun-Connectors; DeviceSetName: PSP_TOUCH_CONNECTOR; Package: PSP_TOUCH_CONNECTOR
footprint PSP_TOUCH_CONNECTOR
pins: X1, X2, Y1, Y2

## QWIIC_CONNECTORJS-1MM
designator J?, comment SparkFun I2C Standard Qwiic ConnectorAn SMD 1mm pitch JST connector makes it easy and quick (get it? Qwiic?) to connect I2C devices to each other. The Qwiic system enables fast and solderless connection between popular platforms and various sensors and actuators. We carry 200mm, 100mm, 50mm, and breadboard friendly Qwiic cables. We also offer 10 pcs strips the SMD connectors.
GateName_1: G$1; SymbolName_1: I2C_STANDARD; DeviceName: JS-1MM; DeviceSetName: QWIIC_CONNECTOR; PROD_ID: CONN-13694; LibraryName: SparkFun-Connectors; Package: 1X04_1MM_RA
footprint 1X04_1MM_RA
pins: 1 (power), 2 (power), 3, 4

## QWIIC_CONNECTORSR
designator J?, comment SparkFun I2C Standard Qwiic ConnectorAn SMD 1mm pitch JST connector makes it easy and quick (get it? Qwiic?) to connect I2C devices to each other. The Qwiic system enables fast and solderless connection between popular platforms and various sensors and actuators. We carry 200mm, 100mm, 50mm, and breadboard friendly Qwiic cables. We also offer 10 pcs strips the SMD connectors.
GateName_1: G$1; SymbolName_1: I2C_STANDARD; DeviceName: SR; DeviceSetName: QWIIC_CONNECTOR; LibraryName: SparkFun-Connectors; Package: 1X04_1MM_RA_STRESSRELIEF
footprint 1X04_1MM_RA_STRESSRELIEF
pins: 1 (power), 2 (power), 3, 4

## RASPBERRY_PI_40BTM-NOHOLES
designator U?
GateName_1: U1; SymbolName_1: RASPBERRY_PI_HEADER-40-GROUPED; DeviceName: BTM-NOHOLES; DeviceSetName: RASPBERRY_PI_40; PROD_ID: CONN-13790; LibraryName: SparkFun-Connectors; Package: RASPBERRY_PI_SHIELD_BOTTOM_ENTRY_NOHOLES
footprint RASPBERRY_PI_SHIELD_BOTTOM_ENTRY_NOHOLES
pins: 1 17 3.3V, 2 4 5V, 3 SDA/D2, 5 SCL/D3, 6 9 14 20 25 30 34 39 GND, 7 D4, 8 TX/D14, 10 RX/D15, 11 D17, 12 PCM_CLK/D18, 13 D27, 15 D22, 16 D23, 18 D24, 19 MOSI/D10, 21 MISO/D9, 22 D25, 23 SCK/D11, 24 CS/D8, 26 D7, 27 ID_SDA, 28 ID_SCL, 29 D5, 31 D6, 32 D12, 33 D13, 35 D19, 36 D16, 37 D26, 38 D20, 40 D21

## RASPBERRY_PI_40NOHOLES
designator U?
GateName_1: U1; SymbolName_1: RASPBERRY_PI_HEADER-40-GROUPED; DeviceName: NOHOLES; DeviceSetName: RASPBERRY_PI_40; LibraryName: SparkFun-Connectors; Package: RASPBERRY_PI_SHIELD_NOHOLES
footprint RASPBERRY_PI_SHIELD_NOHOLES
pins: 1 17 3.3V, 2 4 5V, 3 SDA/D2, 5 SCL/D3, 6 9 14 20 25 30 34 39 GND, 7 D4, 8 TX/D14, 10 RX/D15, 11 D17, 12 PCM_CLK/D18, 13 D27, 15 D22, 16 D23, 18 D24, 19 MOSI/D10, 21 MISO/D9, 22 D25, 23 SCK/D11, 24 CS/D8, 26 D7, 27 ID_SDA, 28 ID_SCL, 29 D5, 31 D6, 32 D12, 33 D13, 35 D19, 36 D16, 37 D26, 38 D20, 40 D21

## RASPBERRY_PI_40SMD
designator U?
GateName_1: U1; SymbolName_1: RASPBERRY_PI_HEADER-40-GROUPED; DeviceName: SMD; DeviceSetName: RASPBERRY_PI_40; LibraryName: SparkFun-Connectors; Package: RASPBERRY_PI_SHIELD_HOLES
footprint RASPBERRY_PI_SHIELD_HOLES
pins: 1 17 3.3V, 2 4 5V, 3 SDA/D2, 5 SCL/D3, 6 9 14 20 25 30 34 39 GND, 7 D4, 8 TX/D14, 10 RX/D15, 11 D17, 12 PCM_CLK/D18, 13 D27, 15 D22, 16 D23, 18 D24, 19 MOSI/D10, 21 MISO/D9, 22 D25, 23 SCK/D11, 24 CS/D8, 26 D7, 27 ID_SDA, 28 ID_SCL, 29 D5, 31 D6, 32 D12, 33 D13, 35 D19, 36 D16, 37 D26, 38 D20, 40 D21

## RASPBERRYPI-40-PIN-GPIO_PTH
designator J?, comment Raspberry Pi GPIO Header2x20 pin connector, as found on B, B+, A+ models. Both shrouded PTH and SMT versions available.SparkFun Products:
GateName_1: G$1; SymbolName_1: RASPBERRYPI_40_PIN_GPIO; DeviceName: _PTH; DeviceSetName: RASPBERRYPI-40-PIN-GPIO; PROD_ID: CONN-12263; SF_ID: PRT-13054; LibraryName: SparkFun-Connectors; Package: 2X20_SHROUDED
footprint 2X20_SHROUDED
pins: 1 3.3V@1 (power), 2 5V@2 (power), 3 SDA, 4 5V@4 (power), 5 SCL, 6 GND@6 (power), 7 GP4, 8 TXO (out), 9 GND@9 (power), 10 RXI, 11 GP17, 12 GP18#, 13 GP27, 14 GND@14 (power), 15 GP22, 16 GP23, 17 3.3V@17 (power), 18 GP24, 19 MOSI (out), 20 GND@20 (power), 21 MISO, 22 GP25, 23 SCLK (out), 24 CE0 (out), 25 GND@25 (power), 26 CE1 (out), 27 ID_SD, 28 ID_SC, 29 GP5, 30 GND@30 (power), 31 GP6, 32 GP12, 33 GP13, 34 GND@34 (power), 35 GP19, 36 GP16, 37 GP26, 38 GP20, 39 GND@39 (power), 40 GP21

## RASPBERRYPI-40-PIN-GPIO_PTH_NO_SHROUD
designator J?, comment Raspberry Pi GPIO Header2x20 pin connector, as found on B, B+, A+ models. Both shrouded PTH and SMT versions available.SparkFun Products:
GateName_1: G$1; SymbolName_1: RASPBERRYPI_40_PIN_GPIO; DeviceName: _PTH_NO_SHROUD; DeviceSetName: RASPBERRYPI-40-PIN-GPIO; LibraryName: SparkFun-Connectors; Package: 2X20
footprint 2X20
pins: 1 3.3V@1 (power), 2 5V@2 (power), 3 SDA, 4 5V@4 (power), 5 SCL, 6 GND@6 (power), 7 GP4, 8 TXO (out), 9 GND@9 (power), 10 RXI, 11 GP17, 12 GP18#, 13 GP27, 14 GND@14 (power), 15 GP22, 16 GP23, 17 3.3V@17 (power), 18 GP24, 19 MOSI (out), 20 GND@20 (power), 21 MISO, 22 GP25, 23 SCLK (out), 24 CE0 (out), 25 GND@25 (power), 26 CE1 (out), 27 ID_SD, 28 ID_SC, 29 GP5, 30 GND@30 (power), 31 GP6, 32 GP12, 33 GP13, 34 GND@34 (power), 35 GP19, 36 GP16, 37 GP26, 38 GP20, 39 GND@39 (power), 40 GP21

## RASPBERRYPI-40-PIN-GPIO_SMT
designator J?, comment Raspberry Pi GPIO Header2x20 pin connector, as found on B, B+, A+ models. Both shrouded PTH and SMT versions available.SparkFun Products:
GateName_1: G$1; SymbolName_1: RASPBERRYPI_40_PIN_GPIO; DeviceName: _SMT; DeviceSetName: RASPBERRYPI-40-PIN-GPIO; PROD_ID: CONN-13143; LibraryName: SparkFun-Connectors; Package: 2X20_SHROUDED_SMT
footprint 2X20_SHROUDED_SMT
pins: 1 3.3V@1 (power), 2 5V@2 (power), 3 SDA, 4 5V@4 (power), 5 SCL, 6 GND@6 (power), 7 GP4, 8 TXO (out), 9 GND@9 (power), 10 RXI, 11 GP17, 12 GP18#, 13 GP27, 14 GND@14 (power), 15 GP22, 16 GP23, 17 3.3V@17 (power), 18 GP24, 19 MOSI (out), 20 GND@20 (power), 21 MISO, 22 GP25, 23 SCLK (out), 24 CE0 (out), 25 GND@25 (power), 26 CE1 (out), 27 ID_SD, 28 ID_SC, 29 GP5, 30 GND@30 (power), 31 GP6, 32 GP12, 33 GP13, 34 GND@34 (power), 35 GP19, 36 GP16, 37 GP26, 38 GP20, 39 GND@39 (power), 40 GP21

## RCA
designator J?, comment RCA Jack connectorThis is a right angle RCA jack connecotr. Commonly used for video or audio. Here is the connector we sell at SparkFun:It is not used on any active designs, however it was used on a couple retired products:You may also be interested in a cable:
GateName_1: G$1; PROD_ID: CONN-09081; SF_ID: PRT-08631; SymbolName_1: RCA; LibraryName: SparkFun-Connectors; DeviceSetName: RCA; Package: RCA
footprint RCA
pins: PIN, SHELL, SWITCH

## RCALOCK
designator J?, comment RCA Jack connectorThis is a right angle RCA jack connecotr. Commonly used for video or audio. Here is the connector we sell at SparkFun:It is not used on any active designs, however it was used on a couple retired products:You may also be interested in a cable:
GateName_1: G$1; DeviceName: LOCK; SymbolName_1: RCA; LibraryName: SparkFun-Connectors; DeviceSetName: RCA; Package: RCA_LOCK
footprint RCA_LOCK
pins: PIN, SHELL, SWITCH

## RJ11-6
designator J?, comment RJ11 Jack - 6 pinCommonly found on CAT3 devices and some Microchip programmers. Here is the connector we sell at SparkFun:It is used on this SparkFun product:
GateName_1: G$1; SymbolName_1: CONN_06; DeviceSetName: RJ11-6; PROD_ID: CONN-08590; SF_ID: PRT-00132; LibraryName: SparkFun-Connectors; Package: RJ11-6
footprint RJ11-6
pins: 1, 2, 3, 4, 5, 6

## RJ45-8
designator J?, comment RJ45 Jack - 8 pinSimple RJ45, 8-pin connection. Commonly used for Cat5, Cat5e, and Cat6 Ethernet cables. Here is the connector we sell at SparkFun:It is used on this SparkFun product:Note, you may also be interested in the "MAGJACK" version of this. It is basically a RJ45 connector, but also has some status LEDs built into the connector housing. You can check that out in this library at the device named "MAGJACK.dev" and see these products online:
GateName_1: JP1; SymbolName_1: RJ45-8; PROD_ID: CONN-08506; SF_ID: PRT-00643; LibraryName: SparkFun-Connectors; DeviceSetName: RJ45-8; Package: RJ45-8
footprint RJ45-8
pins: 1, 2, 3, 4, 5, 6, 7, 8

## SCREENKEY_CONNECTOR
designator J?, comment Connector for the ScreenKeyThis is a tiny, locking 14-pin FPC/FFC connector that mates with the TFT ScreenKeys and their displays. These connectors require a really minimal amount of force to close, which is great for the delicate wires theyâ€™re designed for. Unfortunately, we no longer sell the ScreenKey TFT128 or the  TFT128 Display, however we do still sell the connector. Here is the connector we sell at SparkFun:  (value not drawn)
GateName_1: G$1; SymbolName_1: SCREENKEYMATINGCONNECTOR; DeviceSetName: SCREENKEY_CONNECTOR; PROD_ID: CONN-09581; SF_ID: PRT-09586; LibraryName: SparkFun-Connectors; Package: SCREENKEY_MATING_CONNECTOR
footprint SCREENKEY_MATING_CONNECTOR
pins: 1, 2, 3, 4, 5, 6, 7, 8, 9, 10, 11, 12, 13, 14

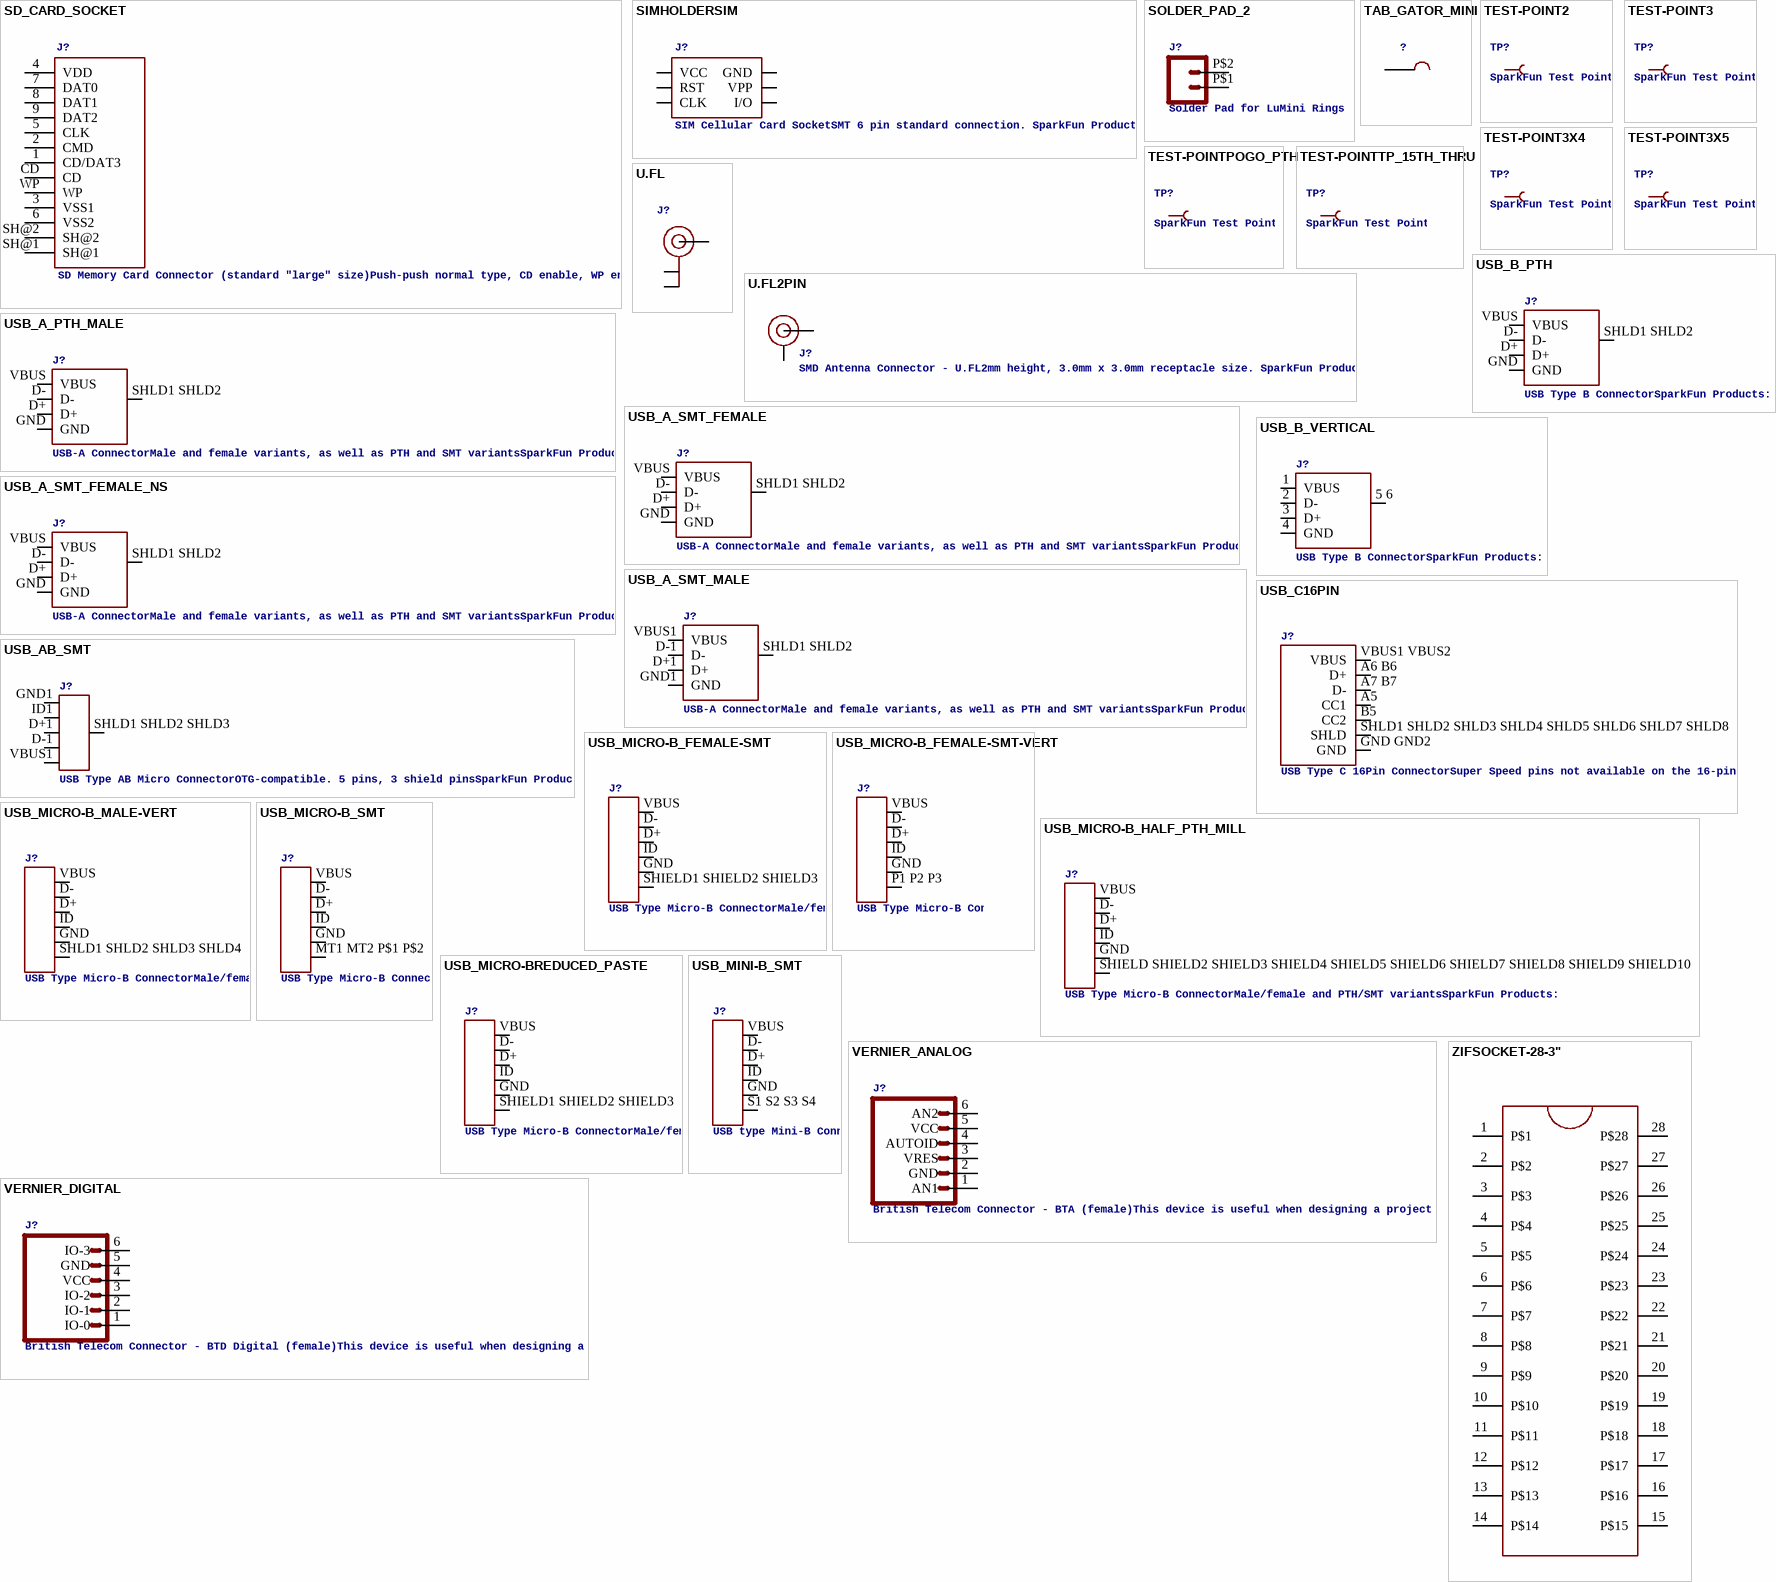
[diagram p16: symbols SD_CARD_SOCKET to ZIFSOCKET-28-3"]

## SD_CARD_SOCKET
designator J?, comment SD Memory Card Connector (standard "large" size)Push-push normal type, CD enable, WP enable. Here is the connector we sell at SparkFun:It is used on these SparkFun products:
GateName_1: G$1; SymbolName_1: SDCARD-1; DeviceSetName: SD_CARD_SOCKET; PROD_ID: CONN-11976; SF_ID: PRT-12769; LibraryName: SparkFun-Connectors; Package: SD
footprint SD
pins: 1 CD/DAT3, 2 CMD, 3 VSS1 (power), 4 VDD (power), 5 CLK, 6 VSS2 (power), 7 DAT0, 8 DAT1, 9 DAT2, CD, SH@1, SH@2, WP

## SIMHOLDERSIM
designator J?, comment SIM Cellular Card SocketSMT 6 pin standard connection. SparkFun Products:
GateName_1: J1; SymbolName_1: SIMHOLDER; PROD_ID: CONN-08536; SF_ID: PRT-00548; DeviceName: SIM; LibraryName: SparkFun-Connectors; DeviceSetName: SIMHOLDER; Package: SIMHOLDER
footprint SIMHOLDER
pins: C1 VCC (power), C2 RST, C3 CLK, C5 GND (power), C6 VPP, C7 I/O

## SOLDER_PAD_2
designator J?, comment Solder Pad for LuMini Rings
GateName_1: G$1; SymbolName_1: CONN_02; DeviceSetName: SOLDER_PAD_2; LibraryName: SparkFun-Connectors; Package: SOLDER_PAD_2
footprint SOLDER_PAD_2
pins: P$1 1, P$2 2

## TAB_GATOR_MINI
designator ?
GateName_1: G$1; SymbolName_1: TAB_MICRO_BIT_GATOR_CLIP; DeviceSetName: TAB_GATOR_MINI; LibraryName: SparkFun-Connectors; Package: TAB_GATOR_MINI
footprint TAB_GATOR_MINI
pins: P1 P$1

## TEST-POINT2
designator TP?, comment SparkFun Test PointsBare copper test points for troubleshooting or In-Circuit-Testing. These are used by our Production team for verifying production board runs using pogo-pins on test beds.SparkFun Products:
GateName_1: G$1; SymbolName_1: TEST-POINT; DeviceName: 2; LibraryName: SparkFun-Connectors; DeviceSetName: TEST-POINT; Package: PAD.02X.02
footprint PAD.02X.02
pins: P$1 1

## TEST-POINT3
designator TP?, comment SparkFun Test PointsBare copper test points for troubleshooting or In-Circuit-Testing. These are used by our Production team for verifying production board runs using pogo-pins on test beds.SparkFun Products:
GateName_1: G$1; SymbolName_1: TEST-POINT; DeviceName: 3; LibraryName: SparkFun-Connectors; DeviceSetName: TEST-POINT; Package: PAD.03X.03
footprint PAD.03X.03
pins: P$1 1

## TEST-POINT3X4
designator TP?, comment SparkFun Test PointsBare copper test points for troubleshooting or In-Circuit-Testing. These are used by our Production team for verifying production board runs using pogo-pins on test beds.SparkFun Products:
GateName_1: G$1; SymbolName_1: TEST-POINT; DeviceName: 3X4; LibraryName: SparkFun-Connectors; DeviceSetName: TEST-POINT; Package: PAD.03X.04
footprint PAD.03X.04
pins: P$1 1

## TEST-POINT3X5
designator TP?, comment SparkFun Test PointsBare copper test points for troubleshooting or In-Circuit-Testing. These are used by our Production team for verifying production board runs using pogo-pins on test beds.SparkFun Products:
GateName_1: G$1; SymbolName_1: TEST-POINT; DeviceName: 3X5; LibraryName: SparkFun-Connectors; DeviceSetName: TEST-POINT; Package: PAD.03X.05
footprint PAD.03X.05
pins: P$1 1

## TEST-POINTPOGO_PTH
designator TP?, comment SparkFun Test PointsBare copper test points for troubleshooting or In-Circuit-Testing. These are used by our Production team for verifying production board runs using pogo-pins on test beds.SparkFun Products:
GateName_1: G$1; SymbolName_1: TEST-POINT; DeviceName: POGO_PTH; LibraryName: SparkFun-Connectors; DeviceSetName: TEST-POINT; Package: 1X01_NO_SILK
footprint 1X01_NO_SILK
pins: 1

## TEST-POINTTP_15TH_THRU
designator TP?, comment SparkFun Test PointsBare copper test points for troubleshooting or In-Circuit-Testing. These are used by our Production team for verifying production board runs using pogo-pins on test beds.SparkFun Products:
GateName_1: G$1; SymbolName_1: TEST-POINT; DeviceName: TP_15TH_THRU; LibraryName: SparkFun-Connectors; DeviceSetName: TEST-POINT; Package: TP_15TH
footprint TP_15TH
pins: P$1 1

## U.FL
designator J?, comment SMD Antenna Connector - U.FL2mm height, 3.0mm x 3.0mm receptacle size. SparkFun Products:  (value not drawn)
GateName_1: G$1; SymbolName_1: U.FL; PROD_ID: CONN-09193; SF_ID: WRL-09144; LibraryName: SparkFun-Connectors; DeviceSetName: U.FL; Package: U.FL
footprint U.FL
pins: 1 GND@0, 2 GND@1, FEED SIGNAL

## U.FL2PIN
designator J?, comment SMD Antenna Connector - U.FL2mm height, 3.0mm x 3.0mm receptacle size. SparkFun Products:
GateName_1: G$1; SymbolName_1: U.FL-1; DeviceSetName: U.FL2PIN; PROD_ID: CONN-09193; SF_ID: WRL-09144; LibraryName: SparkFun-Connectors; Package: U.FL
footprint U.FL
pins: 1 2 GND, FEED SIGNAL

## USB_A_PTH_MALE
designator J?, comment USB-A ConnectorMale and female variants, as well as PTH and SMT variantsSparkFun Products:
GateName_1: G$1; SymbolName_1: USB; DeviceName: _PTH_MALE; DeviceSetName: USB_A; PROD_ID: CONN-08367; SF_ID: PRT-00437; LibraryName: SparkFun-Connectors; Package: USB-A-H
footprint USB-A-H
pins: D+, D-, GND (power), SHLD1 SHLD2 SHIELD, VBUS (power)